# Altium integrated library Atmel Microcontroller 32-Bit ARM.IntLib: 116 symbols (part 3 of 10)
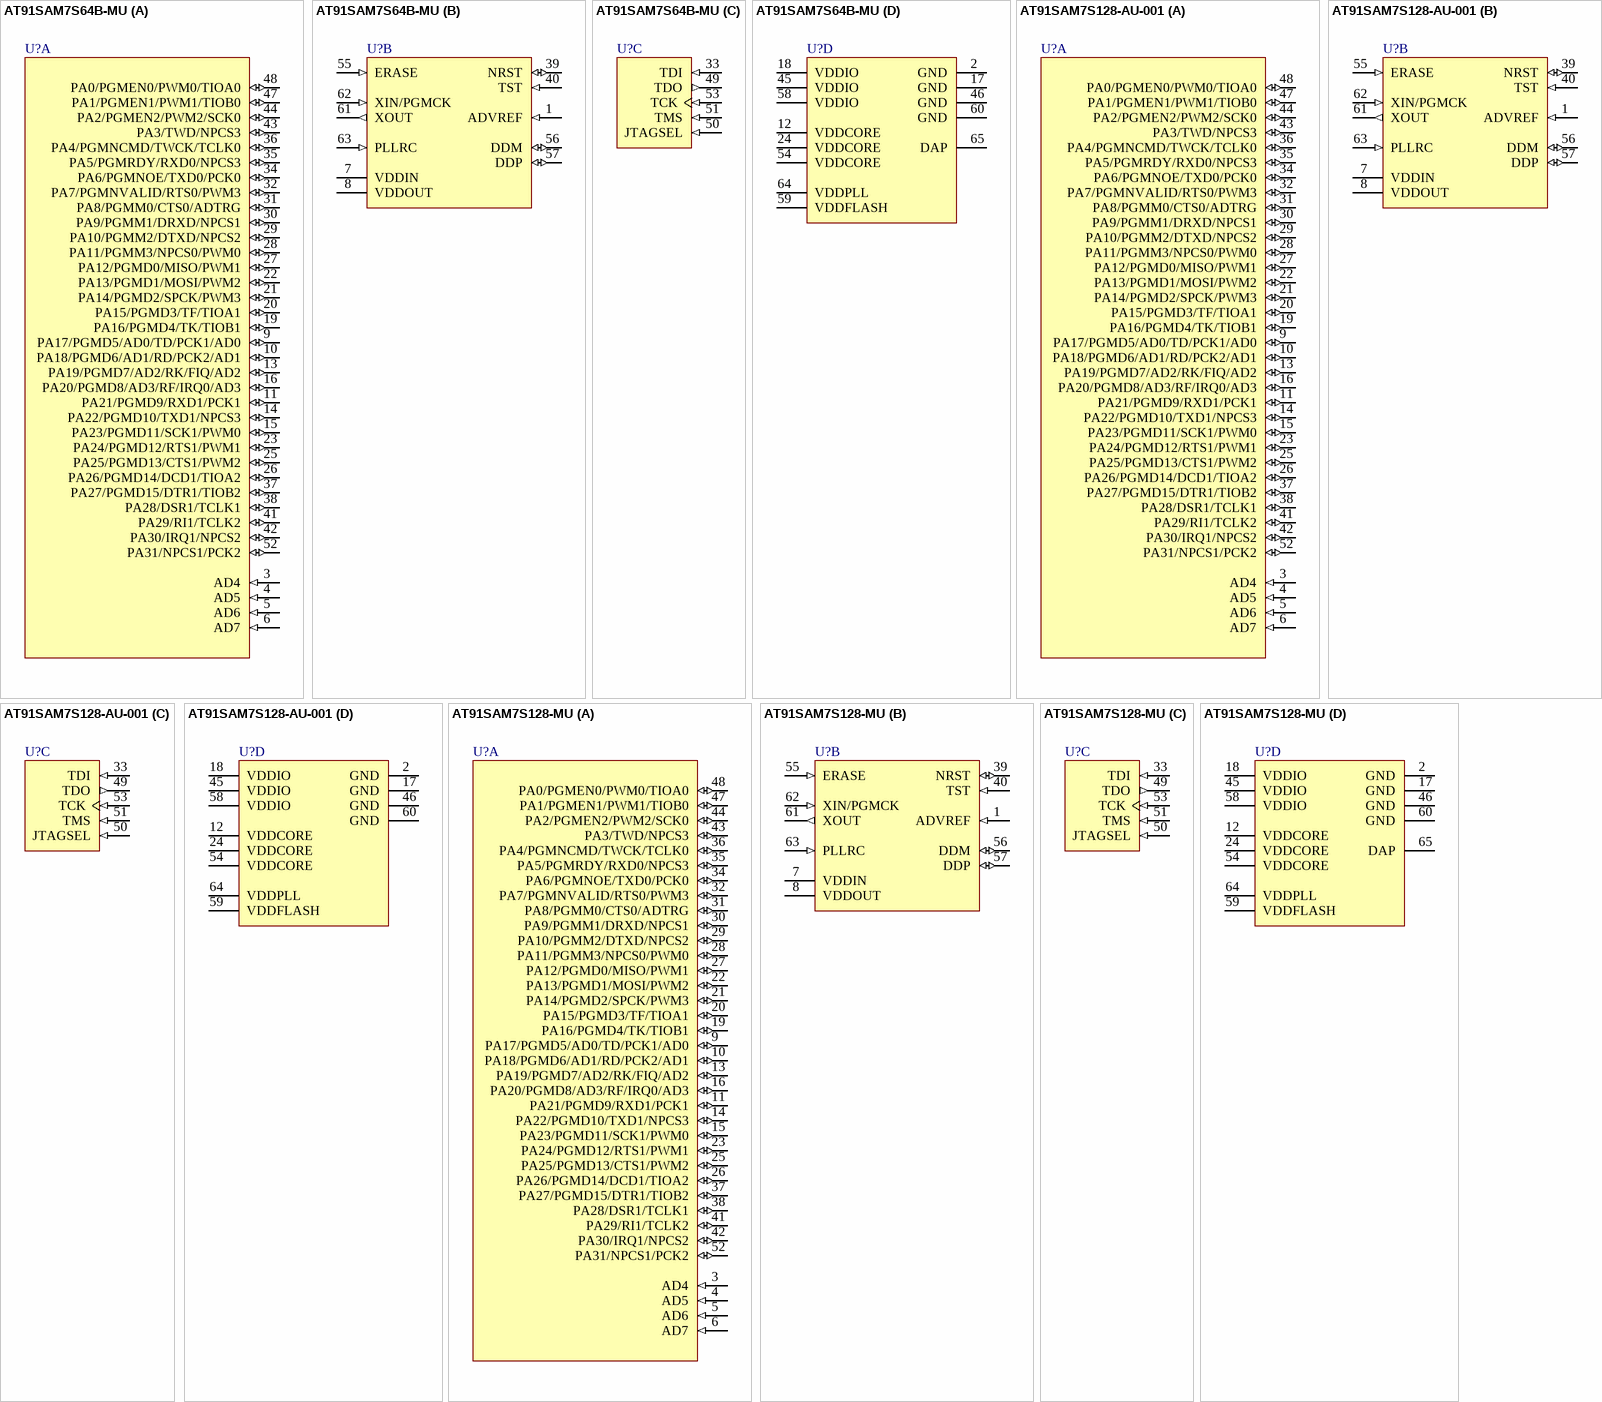
[diagram p54: symbols AT91SAM7S64B-MU to AT91SAM7S128-MU]

## AT91SAM7S64B-MU
designator U?
AT91 ARM Thumb-based 32-bit Microcontroller, 64KB Flash, 16KB SRAM, 11-ch. PDC, 64-Pin QFN, Industrial Grade (-40°C to 85°C), Pb-Free; Published: 20-Sep-2010; DatasheetVersion: revJ, Dec-2009; PackageVersion: Apr-2006; PackageReference: QFN64; Publisher: Altium Limited; PackageDescription: 64-Pin Quad Flat No-Lead 0.5 mm Pitch; Supplier 1: Digi-Key; Supplier Part Number 1: AT91SAM7S64B-MU-ND; Supplier 2: Mouser; Supplier Part Number 2: 556-AT91SAM7S64B-MU; Code_JEDEC: MO-220; ComponentLink1Description: Manufacturer Link; ComponentLink1URL: http://www.atmel.com/products/AT91/default.asp?; ComponentLink2Description: AT91SAM7S Series Datasheet; ComponentLink2URL: http://www.atmel.com/dyn/resources/prod_documents/doc6175.pdf; ComponentLink3Description: AT91SAM7S Series Summary; ComponentLink3URL: http://www.atmel.com/dyn/resources/prod_documents/6175s.pdf; ComponentLink4Description: ARM7TDMI Reference Manual; ComponentLink4URL: http://www.atmel.com/dyn/resources/prod_documents/DDI0029G_7TDMI_R3_trm.pdf; ComponentLink5Description: Atmel.com Home; ComponentLink5URL: http://www.atmel.com
footprint QFN64_N (QFN, 64-Leads, Body 9x9mm, Pitch 0.5mm, IPC Medium Density)
footprint QFN64_L (QFN, 64-Leads, Body 9x9mm, Pitch 0.5mm, IPC High Density)
footprint QFN64_M (QFN, 64-Leads, Body 9x9mm, Pitch 0.5mm, IPC Low Density)
part A pins: 3 AD4 (in), 4 AD5 (in), 5 AD6 (in), 6 AD7 (in), 9 PA17/PGMD5/AD0/TD/PCK1/AD0 (io), 10 PA18/PGMD6/AD1/RD/PCK2/AD1 (io), 11 PA21/PGMD9/RXD1/PCK1 (io), 13 PA19/PGMD7/AD2/RK/FIQ/AD2 (io), 14 PA22/PGMD10/TXD1/NPCS3 (io), 15 PA23/PGMD11/SCK1/PWM0 (io), 16 PA20/PGMD8/AD3/RF/IRQ0/AD3 (io), 19 PA16/PGMD4/TK/TIOB1 (io), 20 PA15/PGMD3/TF/TIOA1 (io), 21 PA14/PGMD2/SPCK/PWM3 (io), 22 PA13/PGMD1/MOSI/PWM2 (io), 23 PA24/PGMD12/RTS1/PWM1 (io), 25 PA25/PGMD13/CTS1/PWM2 (io), 26 PA26/PGMD14/DCD1/TIOA2 (io), 27 PA12/PGMD0/MISO/PWM1 (io), 28 PA11/PGMM3/NPCS0/PWM0 (io), 29 PA10/PGMM2/DTXD/NPCS2 (io), 30 PA9/PGMM1/DRXD/NPCS1 (io), 31 PA8/PGMM0/CTS0/ADTRG (io), 32 PA7/PGMNVALID/RTS0/PWM3 (io), 34 PA6/PGMNOE/TXD0/PCK0 (io), 35 PA5/PGMRDY/RXD0/NPCS3 (io), 36 PA4/PGMNCMD/TWCK/TCLK0 (io), 37 PA27/PGMD15/DTR1/TIOB2 (io), 38 PA28/DSR1/TCLK1 (io), 41 PA29/RI1/TCLK2 (io), 42 PA30/IRQ1/NPCS2 (io), 43 PA3/TWD/NPCS3 (io), 44 PA2/PGMEN2/PWM2/SCK0 (io), 47 PA1/PGMEN1/PWM1/TIOB0 (io), 48 PA0/PGMEN0/PWM0/TIOA0 (io), 52 PA31/NPCS1/PCK2 (io)
part B pins: 1 ADVREF (in), 7 VDDIN (power), 8 VDDOUT (power), 39 NRST (io), 40 TST (in), 55 ERASE (in), 56 DDM (io), 57 DDP (io), 61 XOUT (out), 62 XIN/PGMCK (in), 63 PLLRC (in)
part C pins: 33 TDI (in), 49 TDO (out), 50 JTAGSEL (in), 51 TMS (in), 53 TCK (in)
part D pins: 2 GND (power), 12 VDDCORE (power), 17 GND (power), 18 VDDIO (power), 24 VDDCORE (power), 45 VDDIO (power), 46 GND (power), 54 VDDCORE (power), 58 VDDIO (power), 59 VDDFLASH (power), 60 GND (power), 64 VDDPLL (power), 65 DAP (power)

## AT91SAM7S128-AU-001
designator U?
AT91 ARM Thumb-based 32-bit Microcontroller, 128KB Flash, 32KB SRAM, 64-Pin LQFP, 11-ch. PDC, Industrial Grade (-40°C to 85°C), Pb-Free; Published: 16-Oct-2006; DatasheetVersion: revJ, Dec-2009; PackageVersion: Apr-2006; PackageReference: LQFP64; Publisher: Altium Limited; PackageDescription: 64-Pin Thin Quad Flat Pack 0.5 mm Pitch; Supplier 1: Digi-Key; Supplier Part Number 1: AT91SAM7S128AU001-ND; Supplier 2: Farnell; Supplier Part Number 2: 1095459; Supplier 3: Farnell; Supplier Part Number 3: 1528286; Supplier 4: Mouser; Supplier Part Number 4: 556-A91SAM7S128AU001; Code_JEDEC: MS-026-BCD; ComponentLink1Description: Manufacturer Link; ComponentLink1URL: http://www.atmel.com/products/AT91/default.asp?; ComponentLink2Description: AT91SAM7S Series Datasheet; ComponentLink2URL: http://www.atmel.com/dyn/resources/prod_documents/doc6175.pdf; ComponentLink3Description: AT91SAM7S Series Summary; ComponentLink3URL: http://www.atmel.com/dyn/resources/prod_documents/6175s.pdf; ComponentLink4Description: ARM7TDMI Reference Manual; ComponentLink4URL: http://www.atmel.com/dyn/resources/prod_documents/DDI0029G_7TDMI_R3_trm.pdf; ComponentLink5Description: Atmel.com Home; ComponentLink5URL: http://www.atmel.com
footprint LQFP64_N (Thin QFP, 64-Leads, Body 10x10mm, Pitch 0.5mm, IPC Medium Density)
footprint LQFP64_L (Thin QFP, 64-Leads, Body 10x10mm, Pitch 0.5mm, IPC High Density)
footprint LQFP64_M (Thin QFP, 64-Leads, Body 10x10mm, Pitch 0.5mm, IPC Low Density)
part A pins: 3 AD4 (in), 4 AD5 (in), 5 AD6 (in), 6 AD7 (in), 9 PA17/PGMD5/AD0/TD/PCK1/AD0 (io), 10 PA18/PGMD6/AD1/RD/PCK2/AD1 (io), 11 PA21/PGMD9/RXD1/PCK1 (io), 13 PA19/PGMD7/AD2/RK/FIQ/AD2 (io), 14 PA22/PGMD10/TXD1/NPCS3 (io), 15 PA23/PGMD11/SCK1/PWM0 (io), 16 PA20/PGMD8/AD3/RF/IRQ0/AD3 (io), 19 PA16/PGMD4/TK/TIOB1 (io), 20 PA15/PGMD3/TF/TIOA1 (io), 21 PA14/PGMD2/SPCK/PWM3 (io), 22 PA13/PGMD1/MOSI/PWM2 (io), 23 PA24/PGMD12/RTS1/PWM1 (io), 25 PA25/PGMD13/CTS1/PWM2 (io), 26 PA26/PGMD14/DCD1/TIOA2 (io), 27 PA12/PGMD0/MISO/PWM1 (io), 28 PA11/PGMM3/NPCS0/PWM0 (io), 29 PA10/PGMM2/DTXD/NPCS2 (io), 30 PA9/PGMM1/DRXD/NPCS1 (io), 31 PA8/PGMM0/CTS0/ADTRG (io), 32 PA7/PGMNVALID/RTS0/PWM3 (io), 34 PA6/PGMNOE/TXD0/PCK0 (io), 35 PA5/PGMRDY/RXD0/NPCS3 (io), 36 PA4/PGMNCMD/TWCK/TCLK0 (io), 37 PA27/PGMD15/DTR1/TIOB2 (io), 38 PA28/DSR1/TCLK1 (io), 41 PA29/RI1/TCLK2 (io), 42 PA30/IRQ1/NPCS2 (io), 43 PA3/TWD/NPCS3 (io), 44 PA2/PGMEN2/PWM2/SCK0 (io), 47 PA1/PGMEN1/PWM1/TIOB0 (io), 48 PA0/PGMEN0/PWM0/TIOA0 (io), 52 PA31/NPCS1/PCK2 (io)
part B pins: 1 ADVREF (in), 7 VDDIN (power), 8 VDDOUT (power), 39 NRST (io), 40 TST (in), 55 ERASE (in), 56 DDM (io), 57 DDP (io), 61 XOUT (out), 62 XIN/PGMCK (in), 63 PLLRC (in)
part C pins: 33 TDI (in), 49 TDO (out), 50 JTAGSEL (in), 51 TMS (in), 53 TCK (in)
part D pins: 2 GND (power), 12 VDDCORE (power), 17 GND (power), 18 VDDIO (power), 24 VDDCORE (power), 45 VDDIO (power), 46 GND (power), 54 VDDCORE (power), 58 VDDIO (power), 59 VDDFLASH (power), 60 GND (power), 64 VDDPLL (power)

## AT91SAM7S128-MU
designator U?
AT91 ARM Thumb-based 32-bit Microcontroller, 128KB Flash, 32KB SRAM, 64-Pin QFN, 11-ch. PDC, Industrial Grade (-40°C to 85°C), Pb-Free; Published: 16-Oct-2006; DatasheetVersion: revJ, Dec-2009; PackageVersion: Apr-2006; PackageReference: QFN64; Publisher: Altium Limited; PackageDescription: 64-Pin Quad Flat No-Lead 0.5 mm Pitch; Supplier 1: Digi-Key; Supplier Part Number 1: AT91SAM7S128-MU-ND; Supplier 2: Mouser; Supplier Part Number 2: 556-A91SAM7S128-MU; Code_JEDEC: MO-220; ComponentLink1Description: Manufacturer Link; ComponentLink1URL: http://www.atmel.com/products/AT91/default.asp?; ComponentLink2Description: AT91SAM7S Series Datasheet; ComponentLink2URL: http://www.atmel.com/dyn/resources/prod_documents/doc6175.pdf; ComponentLink3Description: AT91SAM7S Series Summary; ComponentLink3URL: http://www.atmel.com/dyn/resources/prod_documents/6175s.pdf; ComponentLink4Description: ARM7TDMI Reference Manual; ComponentLink4URL: http://www.atmel.com/dyn/resources/prod_documents/DDI0029G_7TDMI_R3_trm.pdf; ComponentLink5Description: Atmel.com Home; ComponentLink5URL: http://www.atmel.com
footprint QFN64_N (QFN, 64-Leads, Body 9x9mm, Pitch 0.5mm, IPC Medium Density)
footprint QFN64_L (QFN, 64-Leads, Body 9x9mm, Pitch 0.5mm, IPC High Density)
footprint QFN64_M (QFN, 64-Leads, Body 9x9mm, Pitch 0.5mm, IPC Low Density)
part A pins: 3 AD4 (in), 4 AD5 (in), 5 AD6 (in), 6 AD7 (in), 9 PA17/PGMD5/AD0/TD/PCK1/AD0 (io), 10 PA18/PGMD6/AD1/RD/PCK2/AD1 (io), 11 PA21/PGMD9/RXD1/PCK1 (io), 13 PA19/PGMD7/AD2/RK/FIQ/AD2 (io), 14 PA22/PGMD10/TXD1/NPCS3 (io), 15 PA23/PGMD11/SCK1/PWM0 (io), 16 PA20/PGMD8/AD3/RF/IRQ0/AD3 (io), 19 PA16/PGMD4/TK/TIOB1 (io), 20 PA15/PGMD3/TF/TIOA1 (io), 21 PA14/PGMD2/SPCK/PWM3 (io), 22 PA13/PGMD1/MOSI/PWM2 (io), 23 PA24/PGMD12/RTS1/PWM1 (io), 25 PA25/PGMD13/CTS1/PWM2 (io), 26 PA26/PGMD14/DCD1/TIOA2 (io), 27 PA12/PGMD0/MISO/PWM1 (io), 28 PA11/PGMM3/NPCS0/PWM0 (io), 29 PA10/PGMM2/DTXD/NPCS2 (io), 30 PA9/PGMM1/DRXD/NPCS1 (io), 31 PA8/PGMM0/CTS0/ADTRG (io), 32 PA7/PGMNVALID/RTS0/PWM3 (io), 34 PA6/PGMNOE/TXD0/PCK0 (io), 35 PA5/PGMRDY/RXD0/NPCS3 (io), 36 PA4/PGMNCMD/TWCK/TCLK0 (io), 37 PA27/PGMD15/DTR1/TIOB2 (io), 38 PA28/DSR1/TCLK1 (io), 41 PA29/RI1/TCLK2 (io), 42 PA30/IRQ1/NPCS2 (io), 43 PA3/TWD/NPCS3 (io), 44 PA2/PGMEN2/PWM2/SCK0 (io), 47 PA1/PGMEN1/PWM1/TIOB0 (io), 48 PA0/PGMEN0/PWM0/TIOA0 (io), 52 PA31/NPCS1/PCK2 (io)
part B pins: 1 ADVREF (in), 7 VDDIN (power), 8 VDDOUT (power), 39 NRST (io), 40 TST (in), 55 ERASE (in), 56 DDM (io), 57 DDP (io), 61 XOUT (out), 62 XIN/PGMCK (in), 63 PLLRC (in)
part C pins: 33 TDI (in), 49 TDO (out), 50 JTAGSEL (in), 51 TMS (in), 53 TCK (in)
part D pins: 2 GND (power), 12 VDDCORE (power), 17 GND (power), 18 VDDIO (power), 24 VDDCORE (power), 45 VDDIO (power), 46 GND (power), 54 VDDCORE (power), 58 VDDIO (power), 59 VDDFLASH (power), 60 GND (power), 64 VDDPLL (power), 65 DAP (power)

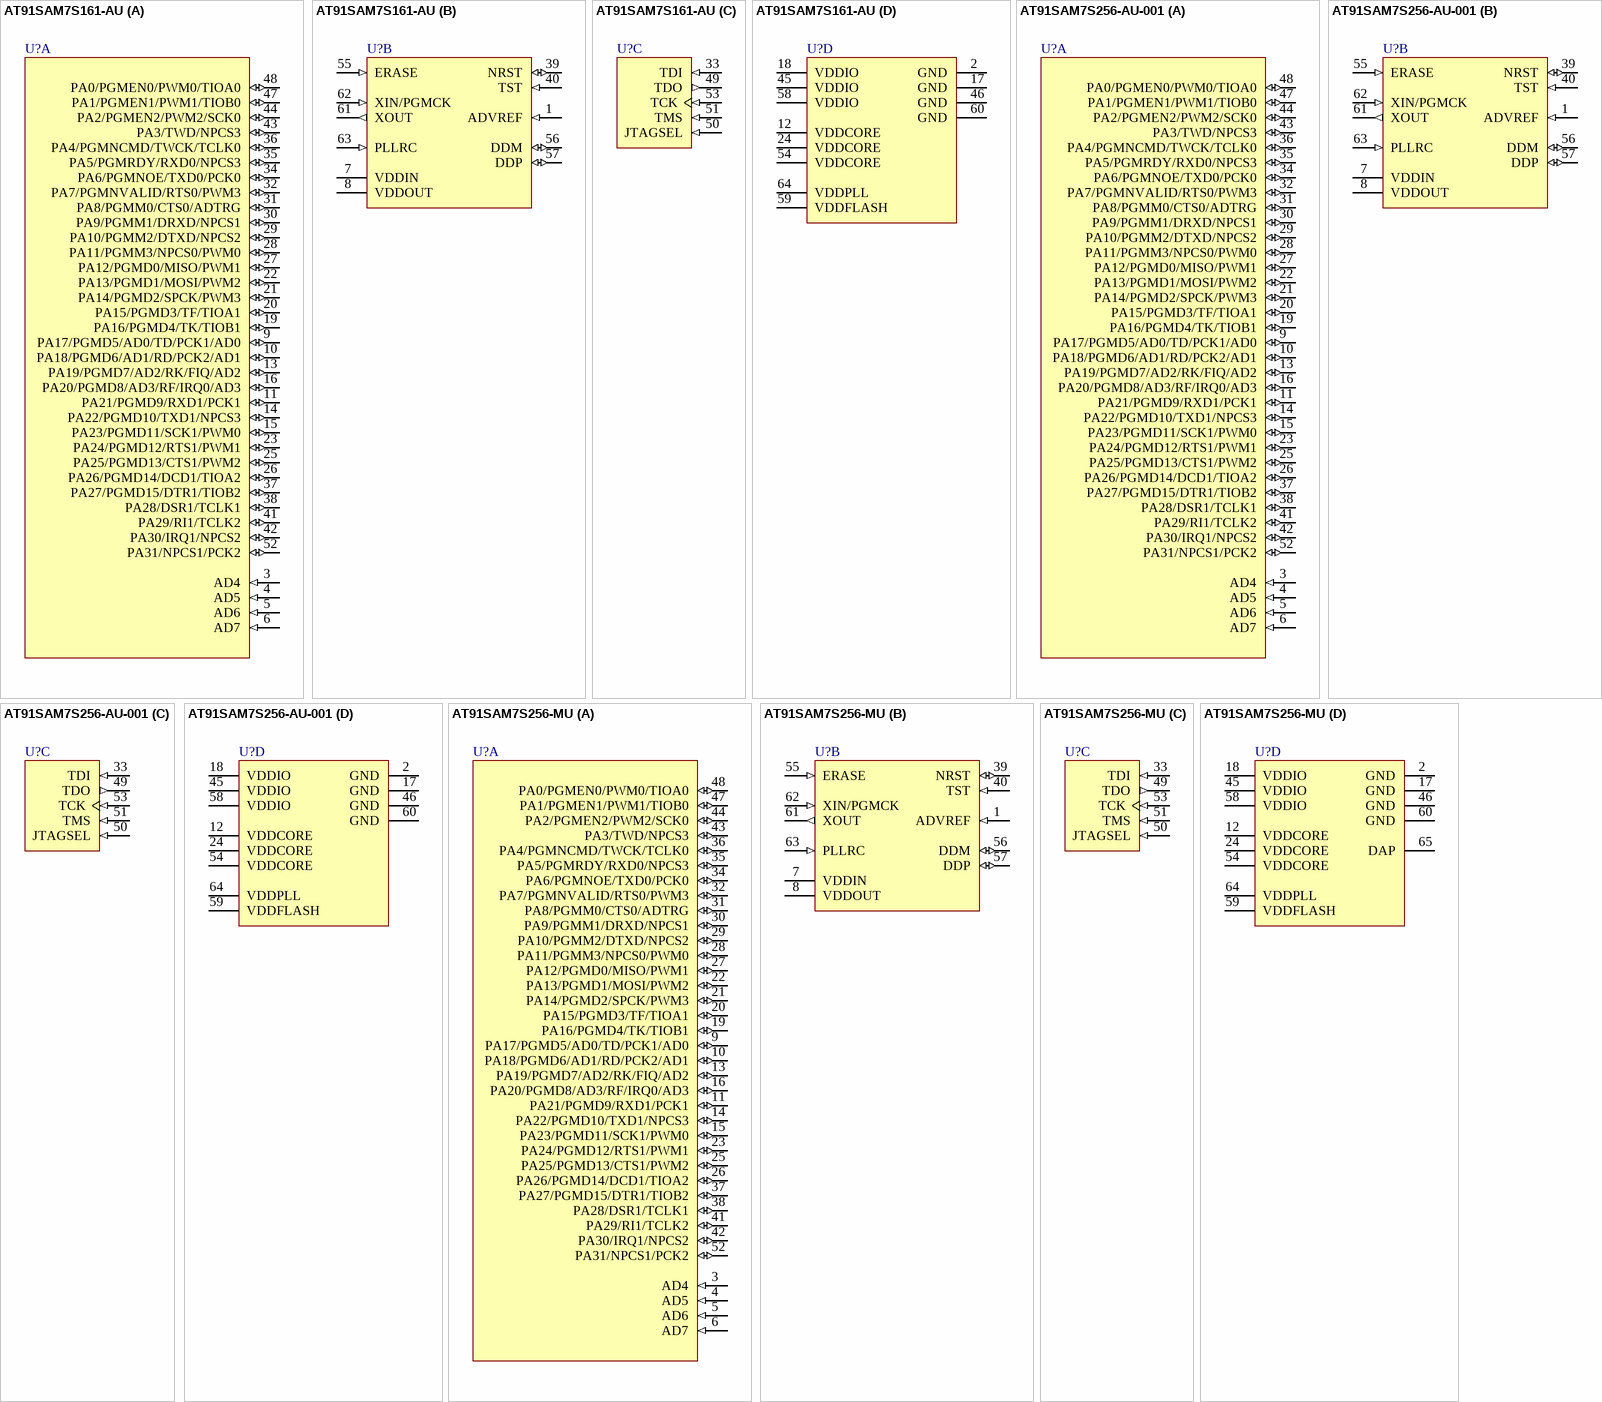
[diagram p12: symbols AT91SAM7S161-AU to AT91SAM7S256-MU]

## AT91SAM7S161-AU
designator U?
AT91 ARM Thumb-based 32-bit Microcontroller, 16KB Flash, 4KB SRAM, 48-Pin LQFP, 11-ch. PDC, Industrial Grade (-40°C to 85°C), Pb-Free; Published: 20-Sep-2010; DatasheetVersion: revJ, Dec-2009; PackageVersion: Apr-2006; PackageReference: LQFP64; Publisher: Altium Limited; PackageDescription: 64-Pin Thin Quad Flat Pack 0.5 mm Pitch; Supplier 1: Digi-Key; Supplier Part Number 1: AT91SAM7S161-AU-ND; Supplier 2: Farnell; Supplier Part Number 2: 1715464; Supplier 3: Mouser; Supplier Part Number 3: 556-AT91SAM7S161-AU; Code_JEDEC: MS-026-BCD; ComponentLink1Description: Manufacturer Link; ComponentLink1URL: http://www.atmel.com/products/AT91/default.asp?; ComponentLink2Description: AT91SAM7S Series Datasheet; ComponentLink2URL: http://www.atmel.com/dyn/resources/prod_documents/doc6175.pdf; ComponentLink3Description: AT91SAM7S Series Summary; ComponentLink3URL: http://www.atmel.com/dyn/resources/prod_documents/6175s.pdf; ComponentLink4Description: ARM7TDMI Reference Manual; ComponentLink4URL: http://www.atmel.com/dyn/resources/prod_documents/DDI0029G_7TDMI_R3_trm.pdf; ComponentLink5Description: Atmel.com Home; ComponentLink5URL: http://www.atmel.com
footprint LQFP64_N (Thin QFP, 64-Leads, Body 10x10mm, Pitch 0.5mm, IPC Medium Density)
footprint LQFP64_L (Thin QFP, 64-Leads, Body 10x10mm, Pitch 0.5mm, IPC High Density)
footprint LQFP64_M (Thin QFP, 64-Leads, Body 10x10mm, Pitch 0.5mm, IPC Low Density)
part A pins: 3 AD4 (in), 4 AD5 (in), 5 AD6 (in), 6 AD7 (in), 9 PA17/PGMD5/AD0/TD/PCK1/AD0 (io), 10 PA18/PGMD6/AD1/RD/PCK2/AD1 (io), 11 PA21/PGMD9/RXD1/PCK1 (io), 13 PA19/PGMD7/AD2/RK/FIQ/AD2 (io), 14 PA22/PGMD10/TXD1/NPCS3 (io), 15 PA23/PGMD11/SCK1/PWM0 (io), 16 PA20/PGMD8/AD3/RF/IRQ0/AD3 (io), 19 PA16/PGMD4/TK/TIOB1 (io), 20 PA15/PGMD3/TF/TIOA1 (io), 21 PA14/PGMD2/SPCK/PWM3 (io), 22 PA13/PGMD1/MOSI/PWM2 (io), 23 PA24/PGMD12/RTS1/PWM1 (io), 25 PA25/PGMD13/CTS1/PWM2 (io), 26 PA26/PGMD14/DCD1/TIOA2 (io), 27 PA12/PGMD0/MISO/PWM1 (io), 28 PA11/PGMM3/NPCS0/PWM0 (io), 29 PA10/PGMM2/DTXD/NPCS2 (io), 30 PA9/PGMM1/DRXD/NPCS1 (io), 31 PA8/PGMM0/CTS0/ADTRG (io), 32 PA7/PGMNVALID/RTS0/PWM3 (io), 34 PA6/PGMNOE/TXD0/PCK0 (io), 35 PA5/PGMRDY/RXD0/NPCS3 (io), 36 PA4/PGMNCMD/TWCK/TCLK0 (io), 37 PA27/PGMD15/DTR1/TIOB2 (io), 38 PA28/DSR1/TCLK1 (io), 41 PA29/RI1/TCLK2 (io), 42 PA30/IRQ1/NPCS2 (io), 43 PA3/TWD/NPCS3 (io), 44 PA2/PGMEN2/PWM2/SCK0 (io), 47 PA1/PGMEN1/PWM1/TIOB0 (io), 48 PA0/PGMEN0/PWM0/TIOA0 (io), 52 PA31/NPCS1/PCK2 (io)
part B pins: 1 ADVREF (in), 7 VDDIN (power), 8 VDDOUT (power), 39 NRST (io), 40 TST (in), 55 ERASE (in), 56 DDM (io), 57 DDP (io), 61 XOUT (out), 62 XIN/PGMCK (in), 63 PLLRC (in)
part C pins: 33 TDI (in), 49 TDO (out), 50 JTAGSEL (in), 51 TMS (in), 53 TCK (in)
part D pins: 2 GND (power), 12 VDDCORE (power), 17 GND (power), 18 VDDIO (power), 24 VDDCORE (power), 45 VDDIO (power), 46 GND (power), 54 VDDCORE (power), 58 VDDIO (power), 59 VDDFLASH (power), 60 GND (power), 64 VDDPLL (power)

## AT91SAM7S256-AU-001
designator U?
AT91 ARM Thumb-based 32-bit Microcontroller, 256KB Flash, 64KB SRAM, 64-Pin LQFP, 11-ch. PDC, Industrial Grade (-40°C to 85°C), Pb-Free; Published: 16-Oct-2006; DatasheetVersion: revJ, Dec-2009; PackageVersion: Apr-2006; PackageReference: LQFP64; Publisher: Altium Limited; PackageDescription: 64-Pin Thin Quad Flat Pack 0.5 mm Pitch; Supplier 1: Digi-Key; Supplier Part Number 1: AT91SAM7S256AU001-ND; Supplier 2: Farnell; Supplier Part Number 2: 1095460; Supplier 3: Farnell; Supplier Part Number 3: 1528287; Supplier 4: Mouser; Supplier Part Number 4: 556-A91SAM7S256AU001; Code_JEDEC: MS-026-BCD; ComponentLink1Description: Manufacturer Link; ComponentLink1URL: http://www.atmel.com/products/AT91/default.asp?; ComponentLink2Description: AT91SAM7S Series Datasheet; ComponentLink2URL: http://www.atmel.com/dyn/resources/prod_documents/doc6175.pdf; ComponentLink3Description: AT91SAM7S Series Summary; ComponentLink3URL: http://www.atmel.com/dyn/resources/prod_documents/6175s.pdf; ComponentLink4Description: ARM7TDMI Reference Manual; ComponentLink4URL: http://www.atmel.com/dyn/resources/prod_documents/DDI0029G_7TDMI_R3_trm.pdf; ComponentLink5Description: Atmel.com Home; ComponentLink5URL: http://www.atmel.com
footprint LQFP64_N (Thin QFP, 64-Leads, Body 10x10mm, Pitch 0.5mm, IPC Medium Density)
footprint LQFP64_L (Thin QFP, 64-Leads, Body 10x10mm, Pitch 0.5mm, IPC High Density)
footprint LQFP64_M (Thin QFP, 64-Leads, Body 10x10mm, Pitch 0.5mm, IPC Low Density)
part A pins: 3 AD4 (in), 4 AD5 (in), 5 AD6 (in), 6 AD7 (in), 9 PA17/PGMD5/AD0/TD/PCK1/AD0 (io), 10 PA18/PGMD6/AD1/RD/PCK2/AD1 (io), 11 PA21/PGMD9/RXD1/PCK1 (io), 13 PA19/PGMD7/AD2/RK/FIQ/AD2 (io), 14 PA22/PGMD10/TXD1/NPCS3 (io), 15 PA23/PGMD11/SCK1/PWM0 (io), 16 PA20/PGMD8/AD3/RF/IRQ0/AD3 (io), 19 PA16/PGMD4/TK/TIOB1 (io), 20 PA15/PGMD3/TF/TIOA1 (io), 21 PA14/PGMD2/SPCK/PWM3 (io), 22 PA13/PGMD1/MOSI/PWM2 (io), 23 PA24/PGMD12/RTS1/PWM1 (io), 25 PA25/PGMD13/CTS1/PWM2 (io), 26 PA26/PGMD14/DCD1/TIOA2 (io), 27 PA12/PGMD0/MISO/PWM1 (io), 28 PA11/PGMM3/NPCS0/PWM0 (io), 29 PA10/PGMM2/DTXD/NPCS2 (io), 30 PA9/PGMM1/DRXD/NPCS1 (io), 31 PA8/PGMM0/CTS0/ADTRG (io), 32 PA7/PGMNVALID/RTS0/PWM3 (io), 34 PA6/PGMNOE/TXD0/PCK0 (io), 35 PA5/PGMRDY/RXD0/NPCS3 (io), 36 PA4/PGMNCMD/TWCK/TCLK0 (io), 37 PA27/PGMD15/DTR1/TIOB2 (io), 38 PA28/DSR1/TCLK1 (io), 41 PA29/RI1/TCLK2 (io), 42 PA30/IRQ1/NPCS2 (io), 43 PA3/TWD/NPCS3 (io), 44 PA2/PGMEN2/PWM2/SCK0 (io), 47 PA1/PGMEN1/PWM1/TIOB0 (io), 48 PA0/PGMEN0/PWM0/TIOA0 (io), 52 PA31/NPCS1/PCK2 (io)
part B pins: 1 ADVREF (in), 7 VDDIN (power), 8 VDDOUT (power), 39 NRST (io), 40 TST (in), 55 ERASE (in), 56 DDM (io), 57 DDP (io), 61 XOUT (out), 62 XIN/PGMCK (in), 63 PLLRC (in)
part C pins: 33 TDI (in), 49 TDO (out), 50 JTAGSEL (in), 51 TMS (in), 53 TCK (in)
part D pins: 2 GND (power), 12 VDDCORE (power), 17 GND (power), 18 VDDIO (power), 24 VDDCORE (power), 45 VDDIO (power), 46 GND (power), 54 VDDCORE (power), 58 VDDIO (power), 59 VDDFLASH (power), 60 GND (power), 64 VDDPLL (power)

## AT91SAM7S256-MU
designator U?
AT91 ARM Thumb-based 32-bit Microcontroller, 256KB Flash, 64KB SRAM, 64-Pin QFN, 11-ch. PDC, Industrial Grade (-40°C to 85°C), Pb-Free; Published: 16-Oct-2006; DatasheetVersion: revJ, Dec-2009; PackageVersion: Apr-2006; PackageReference: QFN64; Publisher: Altium Limited; PackageDescription: 64-Pin Quad Flat No-Lead 0.5 mm Pitch; Supplier 1: Digi-Key; Supplier Part Number 1: AT91SAM7S256-MU-ND; Supplier 2: Mouser; Supplier Part Number 2: 556-A91SAM7S256MU; Code_JEDEC: MO-220; ComponentLink1Description: Manufacturer Link; ComponentLink1URL: http://www.atmel.com/products/AT91/default.asp?; ComponentLink2Description: AT91SAM7S Series Datasheet; ComponentLink2URL: http://www.atmel.com/dyn/resources/prod_documents/doc6175.pdf; ComponentLink3Description: AT91SAM7S Series Summary; ComponentLink3URL: http://www.atmel.com/dyn/resources/prod_documents/6175s.pdf; ComponentLink4Description: ARM7TDMI Reference Manual; ComponentLink4URL: http://www.atmel.com/dyn/resources/prod_documents/DDI0029G_7TDMI_R3_trm.pdf; ComponentLink5Description: Atmel.com Home; ComponentLink5URL: http://www.atmel.com
footprint QFN64_N (QFN, 64-Leads, Body 9x9mm, Pitch 0.5mm, IPC Medium Density)
footprint QFN64_L (QFN, 64-Leads, Body 9x9mm, Pitch 0.5mm, IPC High Density)
footprint QFN64_M (QFN, 64-Leads, Body 9x9mm, Pitch 0.5mm, IPC Low Density)
part A pins: 3 AD4 (in), 4 AD5 (in), 5 AD6 (in), 6 AD7 (in), 9 PA17/PGMD5/AD0/TD/PCK1/AD0 (io), 10 PA18/PGMD6/AD1/RD/PCK2/AD1 (io), 11 PA21/PGMD9/RXD1/PCK1 (io), 13 PA19/PGMD7/AD2/RK/FIQ/AD2 (io), 14 PA22/PGMD10/TXD1/NPCS3 (io), 15 PA23/PGMD11/SCK1/PWM0 (io), 16 PA20/PGMD8/AD3/RF/IRQ0/AD3 (io), 19 PA16/PGMD4/TK/TIOB1 (io), 20 PA15/PGMD3/TF/TIOA1 (io), 21 PA14/PGMD2/SPCK/PWM3 (io), 22 PA13/PGMD1/MOSI/PWM2 (io), 23 PA24/PGMD12/RTS1/PWM1 (io), 25 PA25/PGMD13/CTS1/PWM2 (io), 26 PA26/PGMD14/DCD1/TIOA2 (io), 27 PA12/PGMD0/MISO/PWM1 (io), 28 PA11/PGMM3/NPCS0/PWM0 (io), 29 PA10/PGMM2/DTXD/NPCS2 (io), 30 PA9/PGMM1/DRXD/NPCS1 (io), 31 PA8/PGMM0/CTS0/ADTRG (io), 32 PA7/PGMNVALID/RTS0/PWM3 (io), 34 PA6/PGMNOE/TXD0/PCK0 (io), 35 PA5/PGMRDY/RXD0/NPCS3 (io), 36 PA4/PGMNCMD/TWCK/TCLK0 (io), 37 PA27/PGMD15/DTR1/TIOB2 (io), 38 PA28/DSR1/TCLK1 (io), 41 PA29/RI1/TCLK2 (io), 42 PA30/IRQ1/NPCS2 (io), 43 PA3/TWD/NPCS3 (io), 44 PA2/PGMEN2/PWM2/SCK0 (io), 47 PA1/PGMEN1/PWM1/TIOB0 (io), 48 PA0/PGMEN0/PWM0/TIOA0 (io), 52 PA31/NPCS1/PCK2 (io)
part B pins: 1 ADVREF (in), 7 VDDIN (power), 8 VDDOUT (power), 39 NRST (io), 40 TST (in), 55 ERASE (in), 56 DDM (io), 57 DDP (io), 61 XOUT (out), 62 XIN/PGMCK (in), 63 PLLRC (in)
part C pins: 33 TDI (in), 49 TDO (out), 50 JTAGSEL (in), 51 TMS (in), 53 TCK (in)
part D pins: 2 GND (power), 12 VDDCORE (power), 17 GND (power), 18 VDDIO (power), 24 VDDCORE (power), 45 VDDIO (power), 46 GND (power), 54 VDDCORE (power), 58 VDDIO (power), 59 VDDFLASH (power), 60 GND (power), 64 VDDPLL (power), 65 DAP (power)

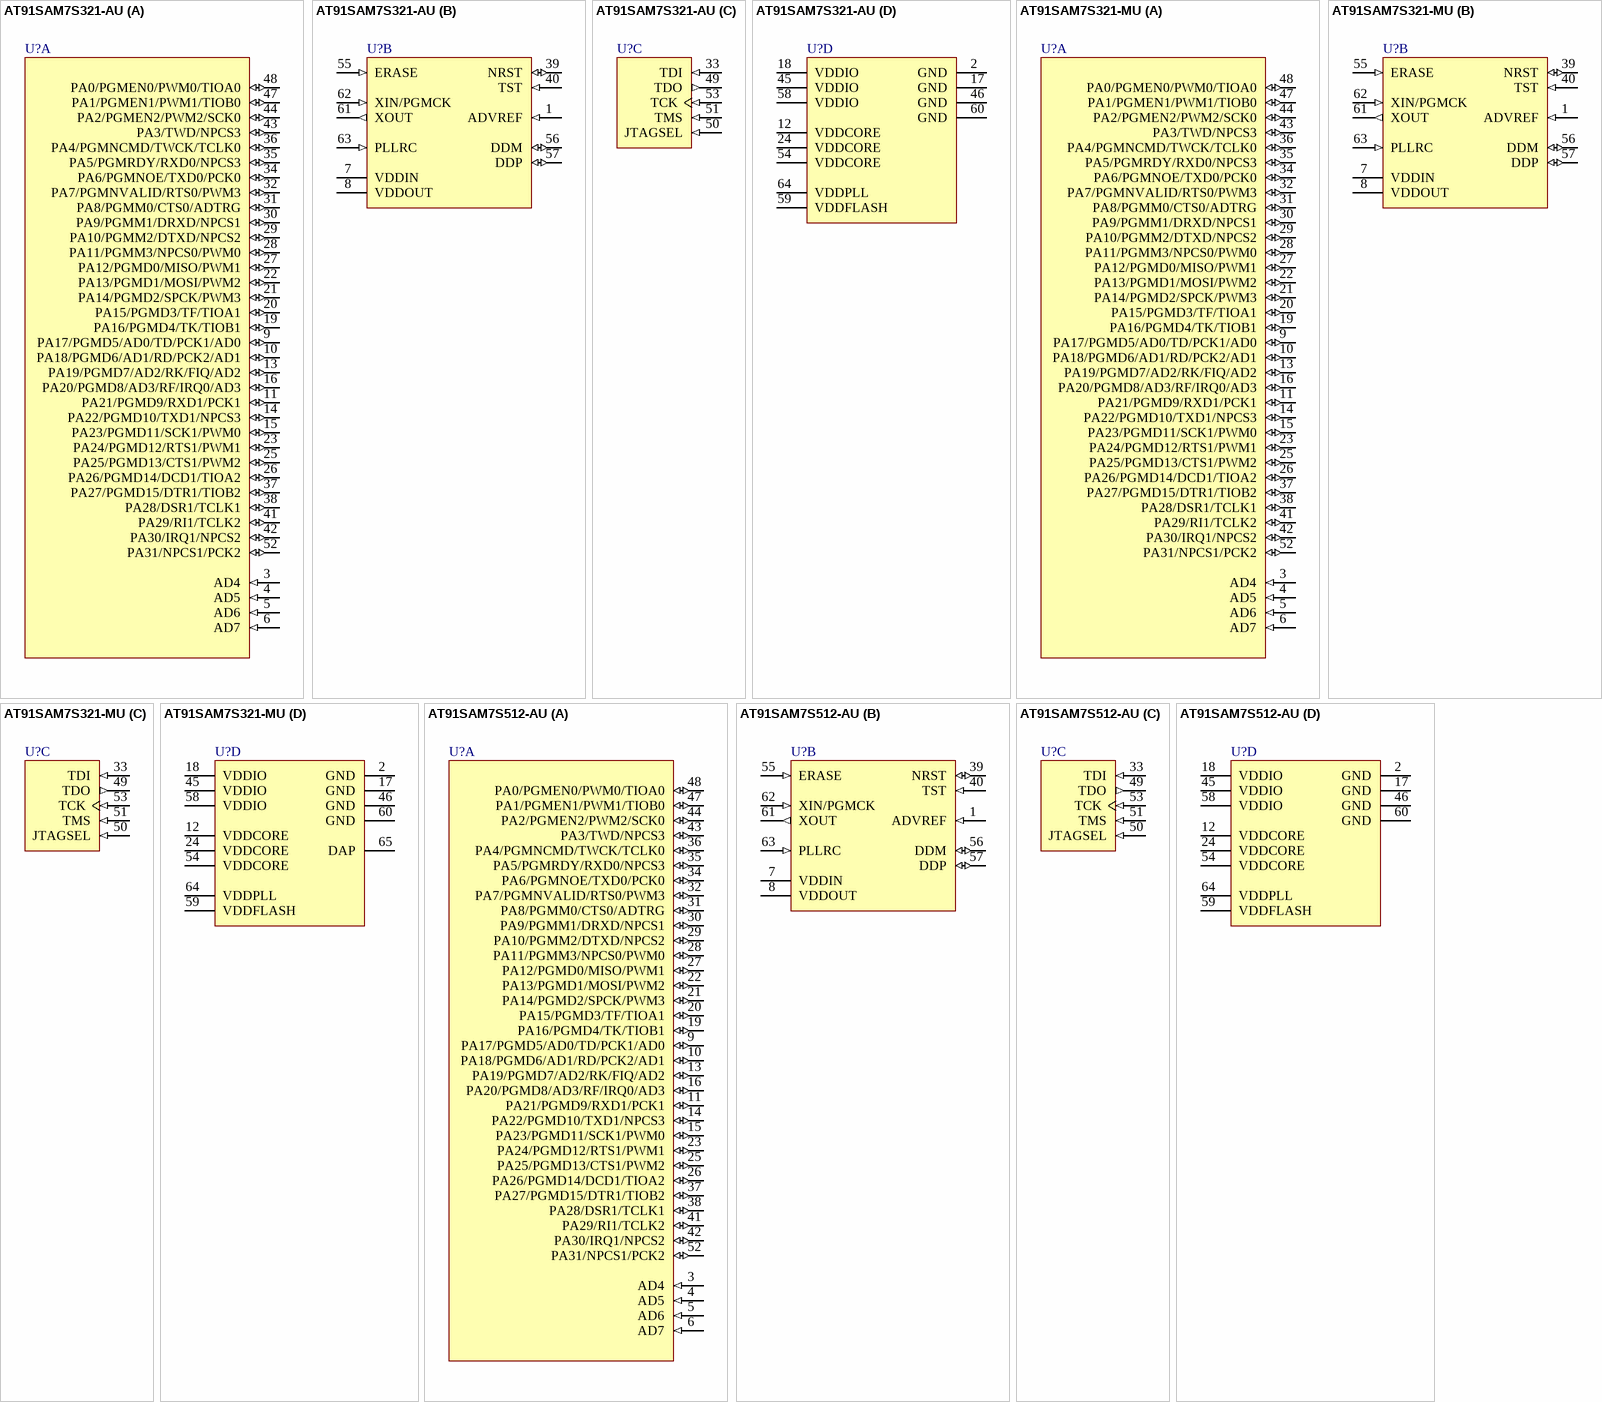
[diagram p13: symbols AT91SAM7S321-AU to AT91SAM7S512-AU]

## AT91SAM7S321-AU
designator U?
AT91 ARM Thumb-based 32-bit Microcontroller, 32KB Flash, 8KB SRAM, 64-Pin LQFP, 11-ch. PDC, Industrial Grade (-40°C to 85°C), Pb-Free; Published: 16-Oct-2006; DatasheetVersion: revJ, Dec-2009; PackageVersion: Apr-2006; PackageReference: LQFP64; Publisher: Altium Limited; PackageDescription: 64-Pin Thin Quad Flat Pack 0.5 mm Pitch; Supplier 1: Digi-Key; Supplier Part Number 1: AT91SAM7S321-AU-ND; Supplier 2: Farnell; Supplier Part Number 2: 1288323; Supplier 3: Mouser; Supplier Part Number 3: 556-A91SAM7S321AU; Code_JEDEC: MS-026-BCD; ComponentLink1Description: Manufacturer Link; ComponentLink1URL: http://www.atmel.com/products/AT91/default.asp?; ComponentLink2Description: AT91SAM7S Series Datasheet; ComponentLink2URL: http://www.atmel.com/dyn/resources/prod_documents/doc6175.pdf; ComponentLink3Description: AT91SAM7S Series Summary; ComponentLink3URL: http://www.atmel.com/dyn/resources/prod_documents/6175s.pdf; ComponentLink4Description: ARM7TDMI Reference Manual; ComponentLink4URL: http://www.atmel.com/dyn/resources/prod_documents/DDI0029G_7TDMI_R3_trm.pdf; ComponentLink5Description: Atmel.com Home; ComponentLink5URL: http://www.atmel.com
footprint LQFP64_N (Thin QFP, 64-Leads, Body 10x10mm, Pitch 0.5mm, IPC Medium Density)
footprint LQFP64_L (Thin QFP, 64-Leads, Body 10x10mm, Pitch 0.5mm, IPC High Density)
footprint LQFP64_M (Thin QFP, 64-Leads, Body 10x10mm, Pitch 0.5mm, IPC Low Density)
part A pins: 3 AD4 (in), 4 AD5 (in), 5 AD6 (in), 6 AD7 (in), 9 PA17/PGMD5/AD0/TD/PCK1/AD0 (io), 10 PA18/PGMD6/AD1/RD/PCK2/AD1 (io), 11 PA21/PGMD9/RXD1/PCK1 (io), 13 PA19/PGMD7/AD2/RK/FIQ/AD2 (io), 14 PA22/PGMD10/TXD1/NPCS3 (io), 15 PA23/PGMD11/SCK1/PWM0 (io), 16 PA20/PGMD8/AD3/RF/IRQ0/AD3 (io), 19 PA16/PGMD4/TK/TIOB1 (io), 20 PA15/PGMD3/TF/TIOA1 (io), 21 PA14/PGMD2/SPCK/PWM3 (io), 22 PA13/PGMD1/MOSI/PWM2 (io), 23 PA24/PGMD12/RTS1/PWM1 (io), 25 PA25/PGMD13/CTS1/PWM2 (io), 26 PA26/PGMD14/DCD1/TIOA2 (io), 27 PA12/PGMD0/MISO/PWM1 (io), 28 PA11/PGMM3/NPCS0/PWM0 (io), 29 PA10/PGMM2/DTXD/NPCS2 (io), 30 PA9/PGMM1/DRXD/NPCS1 (io), 31 PA8/PGMM0/CTS0/ADTRG (io), 32 PA7/PGMNVALID/RTS0/PWM3 (io), 34 PA6/PGMNOE/TXD0/PCK0 (io), 35 PA5/PGMRDY/RXD0/NPCS3 (io), 36 PA4/PGMNCMD/TWCK/TCLK0 (io), 37 PA27/PGMD15/DTR1/TIOB2 (io), 38 PA28/DSR1/TCLK1 (io), 41 PA29/RI1/TCLK2 (io), 42 PA30/IRQ1/NPCS2 (io), 43 PA3/TWD/NPCS3 (io), 44 PA2/PGMEN2/PWM2/SCK0 (io), 47 PA1/PGMEN1/PWM1/TIOB0 (io), 48 PA0/PGMEN0/PWM0/TIOA0 (io), 52 PA31/NPCS1/PCK2 (io)
part B pins: 1 ADVREF (in), 7 VDDIN (power), 8 VDDOUT (power), 39 NRST (io), 40 TST (in), 55 ERASE (in), 56 DDM (io), 57 DDP (io), 61 XOUT (out), 62 XIN/PGMCK (in), 63 PLLRC (in)
part C pins: 33 TDI (in), 49 TDO (out), 50 JTAGSEL (in), 51 TMS (in), 53 TCK (in)
part D pins: 2 GND (power), 12 VDDCORE (power), 17 GND (power), 18 VDDIO (power), 24 VDDCORE (power), 45 VDDIO (power), 46 GND (power), 54 VDDCORE (power), 58 VDDIO (power), 59 VDDFLASH (power), 60 GND (power), 64 VDDPLL (power)

## AT91SAM7S321-MU
designator U?
AT91 ARM Thumb-based 32-bit Microcontroller, 32KB Flash, 8KB SRAM, 64-Pin QFN, 11-ch. PDC, Industrial Grade (-40°C to 85°C), Pb-Free; Published: 16-Oct-2006; DatasheetVersion: revJ, Dec-2009; PackageVersion: Apr-2006; PackageReference: QFN64; Publisher: Altium Limited; PackageDescription: 64-Pin Quad Flat No-Lead 0.5 mm Pitch; Supplier 1: Digi-Key; Supplier Part Number 1: AT91SAM7S321-MU-ND; Supplier 2: Mouser; Supplier Part Number 2: 556-A91SAM7S321-MU; Code_JEDEC: MO-220; ComponentLink1Description: Manufacturer Link; ComponentLink1URL: http://www.atmel.com/products/AT91/default.asp?; ComponentLink2Description: AT91SAM7S Series Datasheet; ComponentLink2URL: http://www.atmel.com/dyn/resources/prod_documents/doc6175.pdf; ComponentLink3Description: AT91SAM7S Series Summary; ComponentLink3URL: http://www.atmel.com/dyn/resources/prod_documents/6175s.pdf; ComponentLink4Description: ARM7TDMI Reference Manual; ComponentLink4URL: http://www.atmel.com/dyn/resources/prod_documents/DDI0029G_7TDMI_R3_trm.pdf; ComponentLink5Description: Atmel.com Home; ComponentLink5URL: http://www.atmel.com
footprint QFN64_N (QFN, 64-Leads, Body 9x9mm, Pitch 0.5mm, IPC Medium Density)
footprint QFN64_L (QFN, 64-Leads, Body 9x9mm, Pitch 0.5mm, IPC High Density)
footprint QFN64_M (QFN, 64-Leads, Body 9x9mm, Pitch 0.5mm, IPC Low Density)
part A pins: 3 AD4 (in), 4 AD5 (in), 5 AD6 (in), 6 AD7 (in), 9 PA17/PGMD5/AD0/TD/PCK1/AD0 (io), 10 PA18/PGMD6/AD1/RD/PCK2/AD1 (io), 11 PA21/PGMD9/RXD1/PCK1 (io), 13 PA19/PGMD7/AD2/RK/FIQ/AD2 (io), 14 PA22/PGMD10/TXD1/NPCS3 (io), 15 PA23/PGMD11/SCK1/PWM0 (io), 16 PA20/PGMD8/AD3/RF/IRQ0/AD3 (io), 19 PA16/PGMD4/TK/TIOB1 (io), 20 PA15/PGMD3/TF/TIOA1 (io), 21 PA14/PGMD2/SPCK/PWM3 (io), 22 PA13/PGMD1/MOSI/PWM2 (io), 23 PA24/PGMD12/RTS1/PWM1 (io), 25 PA25/PGMD13/CTS1/PWM2 (io), 26 PA26/PGMD14/DCD1/TIOA2 (io), 27 PA12/PGMD0/MISO/PWM1 (io), 28 PA11/PGMM3/NPCS0/PWM0 (io), 29 PA10/PGMM2/DTXD/NPCS2 (io), 30 PA9/PGMM1/DRXD/NPCS1 (io), 31 PA8/PGMM0/CTS0/ADTRG (io), 32 PA7/PGMNVALID/RTS0/PWM3 (io), 34 PA6/PGMNOE/TXD0/PCK0 (io), 35 PA5/PGMRDY/RXD0/NPCS3 (io), 36 PA4/PGMNCMD/TWCK/TCLK0 (io), 37 PA27/PGMD15/DTR1/TIOB2 (io), 38 PA28/DSR1/TCLK1 (io), 41 PA29/RI1/TCLK2 (io), 42 PA30/IRQ1/NPCS2 (io), 43 PA3/TWD/NPCS3 (io), 44 PA2/PGMEN2/PWM2/SCK0 (io), 47 PA1/PGMEN1/PWM1/TIOB0 (io), 48 PA0/PGMEN0/PWM0/TIOA0 (io), 52 PA31/NPCS1/PCK2 (io)
part B pins: 1 ADVREF (in), 7 VDDIN (power), 8 VDDOUT (power), 39 NRST (io), 40 TST (in), 55 ERASE (in), 56 DDM (io), 57 DDP (io), 61 XOUT (out), 62 XIN/PGMCK (in), 63 PLLRC (in)
part C pins: 33 TDI (in), 49 TDO (out), 50 JTAGSEL (in), 51 TMS (in), 53 TCK (in)
part D pins: 2 GND (power), 12 VDDCORE (power), 17 GND (power), 18 VDDIO (power), 24 VDDCORE (power), 45 VDDIO (power), 46 GND (power), 54 VDDCORE (power), 58 VDDIO (power), 59 VDDFLASH (power), 60 GND (power), 64 VDDPLL (power), 65 DAP (power)

## AT91SAM7S512-AU
designator U?
AT91 ARM Thumb-based 32-bit Microcontroller, 512KB Flash, 64KB SRAM, 11-ch. PDC, 64-Pin LQFP, Industrial Grade (-40°C to 85°C), Pb-Free; Published: 20-Sep-2010; DatasheetVersion: revJ, Dec-2009; PackageVersion: Apr-2006; PackageReference: LQFP64; Publisher: Altium Limited; PackageDescription: 64-Pin Thin Quad Flat Pack 0.5 mm Pitch; Supplier 1: Digi-Key; Supplier Part Number 1: AT91SAM7S512-AU-ND; Supplier 2: Farnell; Supplier Part Number 2: 1288324; Supplier 3: Mouser; Supplier Part Number 3: 556-A91SAM7S512AU; Code_JEDEC: MS-026-BCD; ComponentLink1Description: Manufacturer Link; ComponentLink1URL: http://www.atmel.com/products/AT91/default.asp?; ComponentLink2Description: AT91SAM7S Series Datasheet; ComponentLink2URL: http://www.atmel.com/dyn/resources/prod_documents/doc6175.pdf; ComponentLink3Description: AT91SAM7S Series Summary; ComponentLink3URL: http://www.atmel.com/dyn/resources/prod_documents/6175s.pdf; ComponentLink4Description: ARM7TDMI Reference Manual; ComponentLink4URL: http://www.atmel.com/dyn/resources/prod_documents/DDI0029G_7TDMI_R3_trm.pdf; ComponentLink5Description: Atmel.com Home; ComponentLink5URL: http://www.atmel.com
footprint LQFP64_N (Thin QFP, 64-Leads, Body 10x10mm, Pitch 0.5mm, IPC Medium Density)
footprint LQFP64_L (Thin QFP, 64-Leads, Body 10x10mm, Pitch 0.5mm, IPC High Density)
footprint LQFP64_M (Thin QFP, 64-Leads, Body 10x10mm, Pitch 0.5mm, IPC Low Density)
part A pins: 3 AD4 (in), 4 AD5 (in), 5 AD6 (in), 6 AD7 (in), 9 PA17/PGMD5/AD0/TD/PCK1/AD0 (io), 10 PA18/PGMD6/AD1/RD/PCK2/AD1 (io), 11 PA21/PGMD9/RXD1/PCK1 (io), 13 PA19/PGMD7/AD2/RK/FIQ/AD2 (io), 14 PA22/PGMD10/TXD1/NPCS3 (io), 15 PA23/PGMD11/SCK1/PWM0 (io), 16 PA20/PGMD8/AD3/RF/IRQ0/AD3 (io), 19 PA16/PGMD4/TK/TIOB1 (io), 20 PA15/PGMD3/TF/TIOA1 (io), 21 PA14/PGMD2/SPCK/PWM3 (io), 22 PA13/PGMD1/MOSI/PWM2 (io), 23 PA24/PGMD12/RTS1/PWM1 (io), 25 PA25/PGMD13/CTS1/PWM2 (io), 26 PA26/PGMD14/DCD1/TIOA2 (io), 27 PA12/PGMD0/MISO/PWM1 (io), 28 PA11/PGMM3/NPCS0/PWM0 (io), 29 PA10/PGMM2/DTXD/NPCS2 (io), 30 PA9/PGMM1/DRXD/NPCS1 (io), 31 PA8/PGMM0/CTS0/ADTRG (io), 32 PA7/PGMNVALID/RTS0/PWM3 (io), 34 PA6/PGMNOE/TXD0/PCK0 (io), 35 PA5/PGMRDY/RXD0/NPCS3 (io), 36 PA4/PGMNCMD/TWCK/TCLK0 (io), 37 PA27/PGMD15/DTR1/TIOB2 (io), 38 PA28/DSR1/TCLK1 (io), 41 PA29/RI1/TCLK2 (io), 42 PA30/IRQ1/NPCS2 (io), 43 PA3/TWD/NPCS3 (io), 44 PA2/PGMEN2/PWM2/SCK0 (io), 47 PA1/PGMEN1/PWM1/TIOB0 (io), 48 PA0/PGMEN0/PWM0/TIOA0 (io), 52 PA31/NPCS1/PCK2 (io)
part B pins: 1 ADVREF (in), 7 VDDIN (power), 8 VDDOUT (power), 39 NRST (io), 40 TST (in), 55 ERASE (in), 56 DDM (io), 57 DDP (io), 61 XOUT (out), 62 XIN/PGMCK (in), 63 PLLRC (in)
part C pins: 33 TDI (in), 49 TDO (out), 50 JTAGSEL (in), 51 TMS (in), 53 TCK (in)
part D pins: 2 GND (power), 12 VDDCORE (power), 17 GND (power), 18 VDDIO (power), 24 VDDCORE (power), 45 VDDIO (power), 46 GND (power), 54 VDDCORE (power), 58 VDDIO (power), 59 VDDFLASH (power), 60 GND (power), 64 VDDPLL (power)

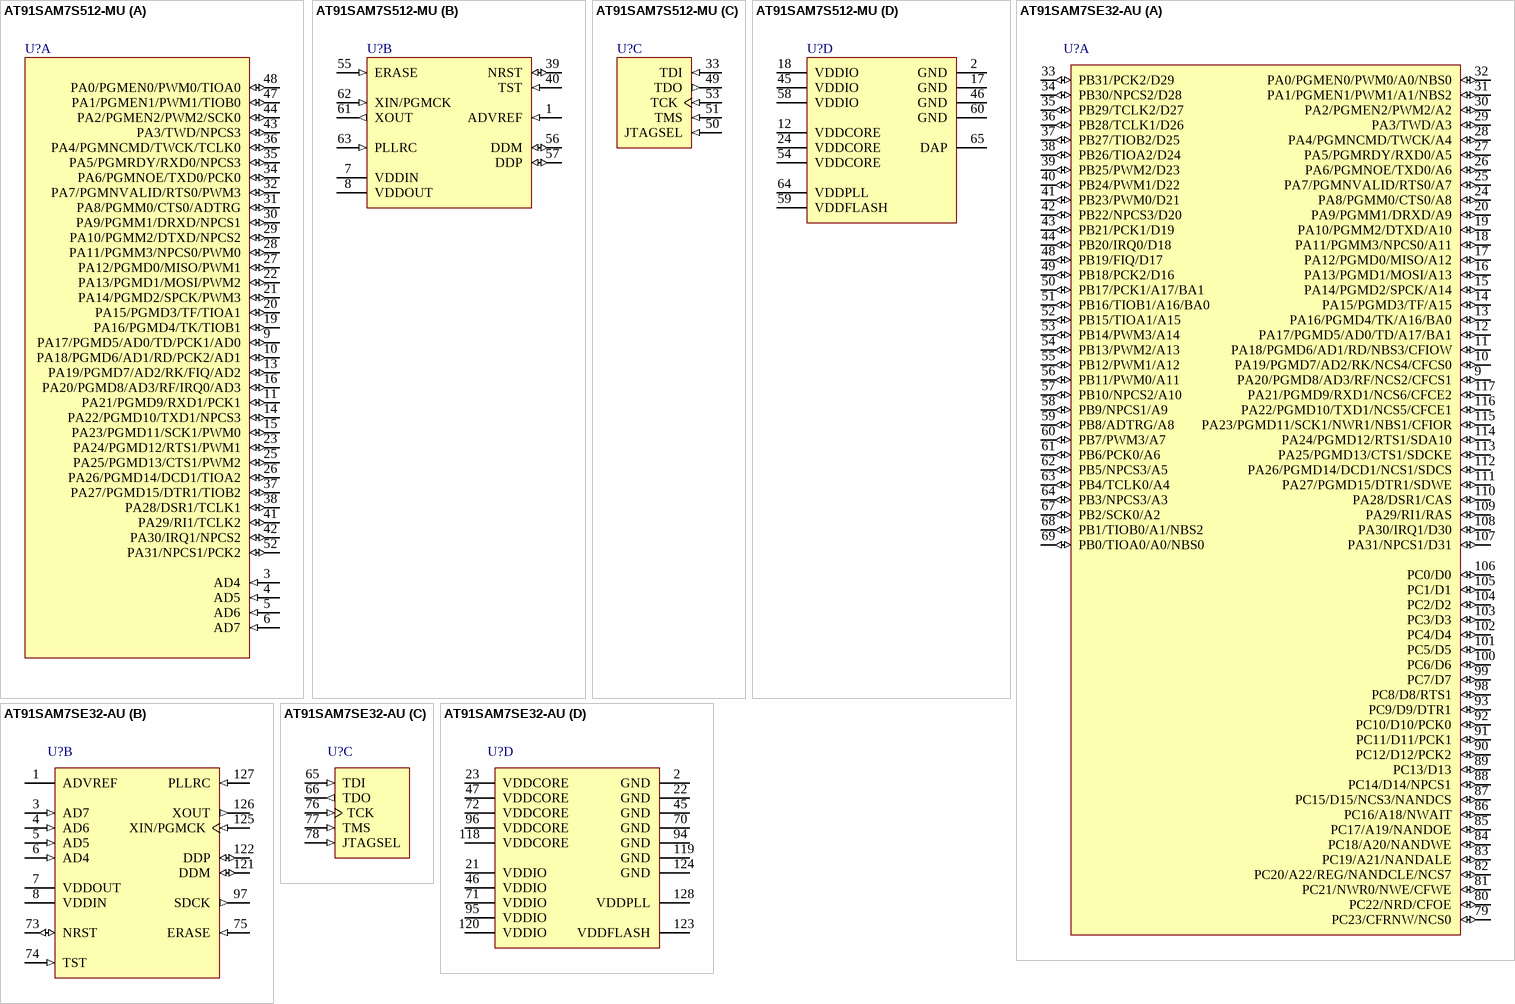
[diagram p14: symbols AT91SAM7S512-MU to AT91SAM7SE32-AU]

## AT91SAM7S512-MU
designator U?
AT91 ARM Thumb-based 32-bit Microcontroller, 512KB Flash, 64KB SRAM, 11-ch. PDC, 64-Pin QFN, Industrial Grade (-40°C to 85°C), Pb-Free; Published: 20-Sep-2010; DatasheetVersion: revJ, Dec-2009; PackageVersion: Apr-2006; PackageReference: QFN64; Publisher: Altium Limited; PackageDescription: 64-Pin Quad Flat No-Lead 0.5 mm Pitch; Supplier 1: Digi-Key; Supplier Part Number 1: AT91SAM7S512-MU-ND; Supplier 2: Mouser; Supplier Part Number 2: 556-A91SAM7S512-MU; Code_JEDEC: MO-220; ComponentLink1Description: Manufacturer Link; ComponentLink1URL: http://www.atmel.com/products/AT91/default.asp?; ComponentLink2Description: AT91SAM7S Series Datasheet; ComponentLink2URL: http://www.atmel.com/dyn/resources/prod_documents/doc6175.pdf; ComponentLink3Description: AT91SAM7S Series Summary; ComponentLink3URL: http://www.atmel.com/dyn/resources/prod_documents/6175s.pdf; ComponentLink4Description: ARM7TDMI Reference Manual; ComponentLink4URL: http://www.atmel.com/dyn/resources/prod_documents/DDI0029G_7TDMI_R3_trm.pdf; ComponentLink5Description: Atmel.com Home; ComponentLink5URL: http://www.atmel.com
footprint QFN64_N (QFN, 64-Leads, Body 9x9mm, Pitch 0.5mm, IPC Medium Density)
footprint QFN64_L (QFN, 64-Leads, Body 9x9mm, Pitch 0.5mm, IPC High Density)
footprint QFN64_M (QFN, 64-Leads, Body 9x9mm, Pitch 0.5mm, IPC Low Density)
part A pins: 3 AD4 (in), 4 AD5 (in), 5 AD6 (in), 6 AD7 (in), 9 PA17/PGMD5/AD0/TD/PCK1/AD0 (io), 10 PA18/PGMD6/AD1/RD/PCK2/AD1 (io), 11 PA21/PGMD9/RXD1/PCK1 (io), 13 PA19/PGMD7/AD2/RK/FIQ/AD2 (io), 14 PA22/PGMD10/TXD1/NPCS3 (io), 15 PA23/PGMD11/SCK1/PWM0 (io), 16 PA20/PGMD8/AD3/RF/IRQ0/AD3 (io), 19 PA16/PGMD4/TK/TIOB1 (io), 20 PA15/PGMD3/TF/TIOA1 (io), 21 PA14/PGMD2/SPCK/PWM3 (io), 22 PA13/PGMD1/MOSI/PWM2 (io), 23 PA24/PGMD12/RTS1/PWM1 (io), 25 PA25/PGMD13/CTS1/PWM2 (io), 26 PA26/PGMD14/DCD1/TIOA2 (io), 27 PA12/PGMD0/MISO/PWM1 (io), 28 PA11/PGMM3/NPCS0/PWM0 (io), 29 PA10/PGMM2/DTXD/NPCS2 (io), 30 PA9/PGMM1/DRXD/NPCS1 (io), 31 PA8/PGMM0/CTS0/ADTRG (io), 32 PA7/PGMNVALID/RTS0/PWM3 (io), 34 PA6/PGMNOE/TXD0/PCK0 (io), 35 PA5/PGMRDY/RXD0/NPCS3 (io), 36 PA4/PGMNCMD/TWCK/TCLK0 (io), 37 PA27/PGMD15/DTR1/TIOB2 (io), 38 PA28/DSR1/TCLK1 (io), 41 PA29/RI1/TCLK2 (io), 42 PA30/IRQ1/NPCS2 (io), 43 PA3/TWD/NPCS3 (io), 44 PA2/PGMEN2/PWM2/SCK0 (io), 47 PA1/PGMEN1/PWM1/TIOB0 (io), 48 PA0/PGMEN0/PWM0/TIOA0 (io), 52 PA31/NPCS1/PCK2 (io)
part B pins: 1 ADVREF (in), 7 VDDIN (power), 8 VDDOUT (power), 39 NRST (io), 40 TST (in), 55 ERASE (in), 56 DDM (io), 57 DDP (io), 61 XOUT (out), 62 XIN/PGMCK (in), 63 PLLRC (in)
part C pins: 33 TDI (in), 49 TDO (out), 50 JTAGSEL (in), 51 TMS (in), 53 TCK (in)
part D pins: 2 GND (power), 12 VDDCORE (power), 17 GND (power), 18 VDDIO (power), 24 VDDCORE (power), 45 VDDIO (power), 46 GND (power), 54 VDDCORE (power), 58 VDDIO (power), 59 VDDFLASH (power), 60 GND (power), 64 VDDPLL (power), 65 DAP (power)

## AT91SAM7SE32-AU
designator U?
AT91 ARM Thumb-based 32-bit Microcontroller, 32KB Flash, 8KB SRAM, EBI, 8-ch. 10-bit ADC, 128-pin LQFP, Industrial Grade (-40°C to 85°C), Pb-Free; Published: 20-Sep-2010; DatasheetVersion: revE, Dec-2009; PackageVersion: 2008; PackageReference: LQFP128; Publisher: Altium Limited; PackageDescription: 128-Pin Thin Quad Flat Pack Rectangular 0.5 mm Pitch; Supplier 1: Digi-Key; Supplier Part Number 1: AT91SAM7SE32-AU-ND; Supplier 2: Farnell; Supplier Part Number 2: 1455082; Supplier 3: Mouser; Supplier Part Number 3: 556-A91SAM7SE32AU; Code_JEDEC: MS-026; ComponentLink1Description: Manufacturer Link; ComponentLink1URL: http://www.atmel.com/products/AT91/default.asp?; ComponentLink2Description: AT91SAM7SE Series Datasheet; ComponentLink2URL: http://www.atmel.com/dyn/resources/prod_documents/doc6222.pdf; ComponentLink3Description: AT91SAM7SE Series Summary; ComponentLink3URL: http://www.atmel.com/dyn/resources/prod_documents/6222s.pdf; ComponentLink4Description: Atmel.com Home; ComponentLink4URL: http://www.atmel.com
footprint LQFP128_N (Thin QFP, 128-Leads, Body 20x14 mm, Pitch 0.5mm, IPC Medium Density)
footprint LQFP128_L (Thin QFP, 128-Leads, Body 20x14 mm, Pitch 0.5mm, IPC High Density)
footprint LQFP128_M (Thin QFP, 128-Leads, Body 20x14 mm, Pitch 0.5mm, IPC Low Density)
part A pins: 9 PA20/PGMD8/AD3/RF/NCS2/CFCS1 (io), 10 PA19/PGMD7/AD2/RK/NCS4/CFCS0 (io), 11 PA18/PGMD6/AD1/RD/NBS3/CFIOW (io), 12 PA17/PGMD5/AD0/TD/A17/BA1 (io), 13 PA16/PGMD4/TK/A16/BA0 (io), 14 PA15/PGMD3/TF/A15 (io), 15 PA14/PGMD2/SPCK/A14 (io), 16 PA13/PGMD1/MOSI/A13 (io), 17 PA12/PGMD0/MISO/A12 (io), 18 PA11/PGMM3/NPCS0/A11 (io), 19 PA10/PGMM2/DTXD/A10 (io), 20 PA9/PGMM1/DRXD/A9 (io), 24 PA8/PGMM0/CTS0/A8 (io), 25 PA7/PGMNVALID/RTS0/A7 (io), 26 PA6/PGMNOE/TXD0/A6 (io), 27 PA5/PGMRDY/RXD0/A5 (io), 28 PA4/PGMNCMD/TWCK/A4 (io), 29 PA3/TWD/A3 (io), 30 PA2/PGMEN2/PWM2/A2 (io), 31 PA1/PGMEN1/PWM1/A1/NBS2 (io), 32 PA0/PGMEN0/PWM0/A0/NBS0 (io), 33 PB31/PCK2/D29 (io), 34 PB30/NPCS2/D28 (io), 35 PB29/TCLK2/D27 (io), 36 PB28/TCLK1/D26 (io), 37 PB27/TIOB2/D25 (io), 38 PB26/TIOA2/D24 (io), 39 PB25/PWM2/D23 (io), 40 PB24/PWM1/D22 (io), 41 PB23/PWM0/D21 (io), 42 PB22/NPCS3/D20 (io), 43 PB21/PCK1/D19 (io), 44 PB20/IRQ0/D18 (io), 48 PB19/FIQ/D17 (io), 49 PB18/PCK2/D16 (io), 50 PB17/PCK1/A17/BA1 (io), 51 PB16/TIOB1/A16/BA0 (io), 52 PB15/TIOA1/A15 (io), 53 PB14/PWM3/A14 (io), 54 PB13/PWM2/A13 (io), 55 PB12/PWM1/A12 (io), 56 PB11/PWM0/A11 (io), 57 PB10/NPCS2/A10 (io), 58 PB9/NPCS1/A9 (io), 59 PB8/ADTRG/A8 (io), 60 PB7/PWM3/A7 (io), 61 PB6/PCK0/A6 (io), 62 PB5/NPCS3/A5 (io), 63 PB4/TCLK0/A4 (io), 64 PB3/NPCS3/A3 (io), 67 PB2/SCK0/A2 (io), 68 PB1/TIOB0/A1/NBS2 (io), 69 PB0/TIOA0/A0/NBS0 (io), 79 PC23/CFRNW/NCS0 (io), 80 PC22/NRD/CFOE (io), 81 PC21/NWR0/NWE/CFWE (io), 82 PC20/A22/REG/NANDCLE/NCS7 (io), 83 PC19/A21/NANDALE (io), 84 PC18/A20/NANDWE (io), 85 PC17/A19/NANDOE (io), 86 PC16/A18/NWAIT (io), 87 PC15/D15/NCS3/NANDCS (io), 88 PC14/D14/NPCS1 (io), 89 PC13/D13 (io), 90 PC12/D12/PCK2 (io), 91 PC11/D11/PCK1 (io), 92 PC10/D10/PCK0 (io), 93 PC9/D9/DTR1 (io), 98 PC8/D8/RTS1 (io), 99 PC7/D7 (io), 100 PC6/D6 (io), 101 PC5/D5 (io), 102 PC4/D4 (io), 103 PC3/D3 (io), 104 PC2/D2 (io), 105 PC1/D1 (io), 106 PC0/D0 (io), 107 PA31/NPCS1/D31 (io), 108 PA30/IRQ1/D30 (io), 109 PA29/RI1/RAS (io), 110 PA28/DSR1/CAS (io), 111 PA27/PGMD15/DTR1/SDWE (io), 112 PA26/PGMD14/DCD1/NCS1/SDCS (io), 113 PA25/PGMD13/CTS1/SDCKE (io), 114 PA24/PGMD12/RTS1/SDA10 (io), 115 PA23/PGMD11/SCK1/NWR1/NBS1/CFIOR (io), 116 PA22/PGMD10/TXD1/NCS5/CFCE1 (io), 117 PA21/PGMD9/RXD1/NCS6/CFCE2 (io)
part B pins: 1 ADVREF (power), 3 AD7 (in), 4 AD6 (in), 5 AD5 (in), 6 AD4 (in), 7 VDDOUT (power), 8 VDDIN (power), 73 NRST (io), 74 TST (in), 75 ERASE (in), 97 SDCK (out), 121 DDM (io), 122 DDP (io), 125 XIN/PGMCK (in), 126 XOUT (out), 127 PLLRC (in)
part C pins: 65 TDI (in), 66 TDO (out), 76 TCK (in), 77 TMS (in), 78 JTAGSEL (in)
part D pins: 2 GND (power), 21 VDDIO (power), 22 GND (power), 23 VDDCORE (power), 45 GND (power), 46 VDDIO (power), 47 VDDCORE (power), 70 GND (power), 71 VDDIO (power), 72 VDDCORE (power), 94 GND (power), 95 VDDIO (power), 96 VDDCORE (power), 118 VDDCORE (power), 119 GND (power), 120 VDDIO (power), 123 VDDFLASH (power), 124 GND (power), 128 VDDPLL (power)

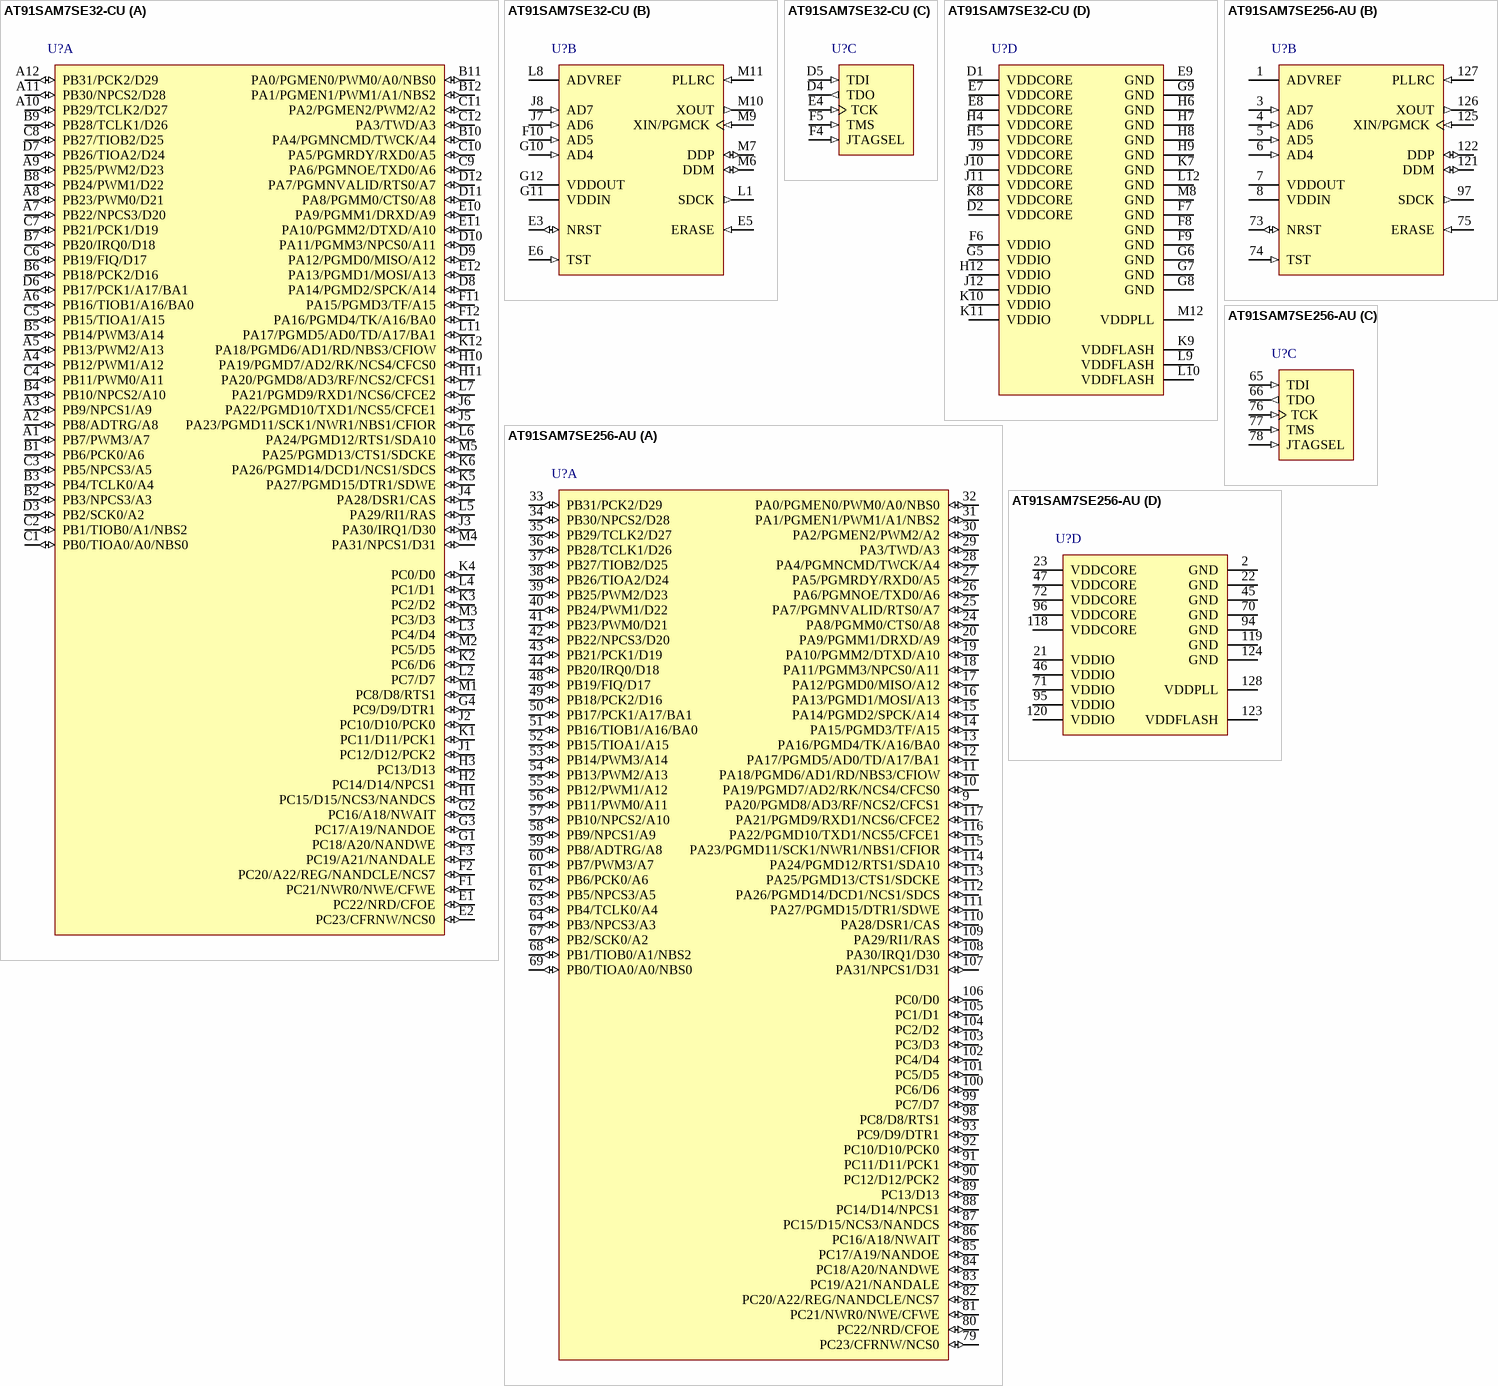
[diagram p15: symbols AT91SAM7SE32-CU to AT91SAM7SE256-AU]

## AT91SAM7SE32-CU
designator U?
AT91 ARM Thumb-based 32-bit Microcontroller, 32KB Flash, 8KB SRAM, EBI, 8-ch. 10-bit ADC, 144-pin LFBGA, Industrial Grade (-40°C to 85°C), Pb-Free; Published: 20-Sep-2010; DatasheetVersion: revE, Dec-2009; PackageVersion: 2008; PackageReference: LFBGA144; Publisher: Altium Limited; PackageDescription: 144-Ball Low Profile Fine Pitch BGA, 10 x 10 x 1.4 mm Body, 0.8 mm Pitch; Supplier 1: Digi-Key; Supplier Part Number 1: AT91SAM7SE32-CU-ND; Supplier 2: Mouser; Supplier Part Number 2: 556-A91SAM7SE32-CU; Code_JEDEC: MS-026; ComponentLink1Description: Manufacturer Link; ComponentLink1URL: http://www.atmel.com/products/AT91/default.asp?; ComponentLink2Description: AT91SAM7SE Series Datasheet; ComponentLink2URL: http://www.atmel.com/dyn/resources/prod_documents/doc6222.pdf; ComponentLink3Description: AT91SAM7SE Series Summary; ComponentLink3URL: http://www.atmel.com/dyn/resources/prod_documents/6222s.pdf; ComponentLink4Description: Atmel.com Home; ComponentLink4URL: http://www.atmel.com
footprint LFBGA144 (BGA, 144-Leads, Body 10x10mm, Pitch 0.8mm)
part A pins: A1 PB7/PWM3/A7 (io), A2 PB8/ADTRG/A8 (io), A3 PB9/NPCS1/A9 (io), A4 PB12/PWM1/A12 (io), A5 PB13/PWM2/A13 (io), A6 PB16/TIOB1/A16/BA0 (io), A7 PB22/NPCS3/D20 (io), A8 PB23/PWM0/D21 (io), A9 PB25/PWM2/D23 (io), A10 PB29/TCLK2/D27 (io), A11 PB30/NPCS2/D28 (io), A12 PB31/PCK2/D29 (io), B1 PB6/PCK0/A6 (io), B2 PB3/NPCS3/A3 (io), B3 PB4/TCLK0/A4 (io), B4 PB10/NPCS2/A10 (io), B5 PB14/PWM3/A14 (io), B6 PB18/PCK2/D16 (io), B7 PB20/IRQ0/D18 (io), B8 PB24/PWM1/D22 (io), B9 PB28/TCLK1/D26 (io), B10 PA4/PGMNCMD/TWCK/A4 (io), B11 PA0/PGMEN0/PWM0/A0/NBS0 (io), B12 PA1/PGMEN1/PWM1/A1/NBS2 (io), C1 PB0/TIOA0/A0/NBS0 (io), C2 PB1/TIOB0/A1/NBS2 (io), C3 PB5/NPCS3/A5 (io), C4 PB11/PWM0/A11 (io), C5 PB15/TIOA1/A15 (io), C6 PB19/FIQ/D17 (io), C7 PB21/PCK1/D19 (io), C8 PB27/TIOB2/D25 (io), C9 PA6/PGMNOE/TXD0/A6 (io), C10 PA5/PGMRDY/RXD0/A5 (io), C11 PA2/PGMEN2/PWM2/A2 (io), C12 PA3/TWD/A3 (io), D3 PB2/SCK0/A2 (io), D6 PB17/PCK1/A17/BA1 (io), D7 PB26/TIOA2/D24 (io), D8 PA14/PGMD2/SPCK/A14 (io), D9 PA12/PGMD0/MISO/A12 (io), D10 PA11/PGMM3/NPCS0/A11 (io), D11 PA8/PGMM0/CTS0/A8 (io), D12 PA7/PGMNVALID/RTS0/A7 (io), E1 PC22/NRD/CFOE (io), E2 PC23/CFRNW/NCS0 (io), E10 PA9/PGMM1/DRXD/A9 (io), E11 PA10/PGMM2/DTXD/A10 (io), E12 PA13/PGMD1/MOSI/A13 (io), F1 PC21/NWR0/NWE/CFWE (io), F2 PC20/A22/REG/NANDCLE/NCS7 (io), F3 PC19/A21/NANDALE (io), F11 PA15/PGMD3/TF/A15 (io), F12 PA16/PGMD4/TK/A16/BA0 (io), G1 PC18/A20/NANDWE (io), G2 PC16/A18/NWAIT (io), G3 PC17/A19/NANDOE (io), G4 PC9/D9/DTR1 (io), H1 PC15/D15/NCS3/NANDCS (io), H2 PC14/D14/NPCS1 (io), H3 PC13/D13 (io), H10 PA19/PGMD7/AD2/RK/NCS4/CFCS0 (io), H11 PA20/PGMD8/AD3/RF/NCS2/CFCS1 (io), J1 PC12/D12/PCK2 (io), J2 PC10/D10/PCK0 (io), J3 PA30/IRQ1/D30 (io), J4 PA28/DSR1/CAS (io), J5 PA23/PGMD11/SCK1/NWR1/NBS1/CFIOR (io), J6 PA22/PGMD10/TXD1/NCS5/CFCE1 (io), K1 PC11/D11/PCK1 (io), K2 PC6/D6 (io), K3 PC2/D2 (io), K4 PC0/D0 (io), K5 PA27/PGMD15/DTR1/SDWE (io), K6 PA26/PGMD14/DCD1/NCS1/SDCS (io), K12 PA18/PGMD6/AD1/RD/NBS3/CFIOW (io), L2 PC7/D7 (io), L3 PC4/D4 (io), L4 PC1/D1 (io), L5 PA29/RI1/RAS (io), L6 PA24/PGMD12/RTS1/SDA10 (io), L7 PA21/PGMD9/RXD1/NCS6/CFCE2 (io), L11 PA17/PGMD5/AD0/TD/A17/BA1 (io), M1 PC8/D8/RTS1 (io), M2 PC5/D5 (io), M3 PC3/D3 (io), M4 PA31/NPCS1/D31 (io), M5 PA25/PGMD13/CTS1/SDCKE (io)
part B pins: E3 NRST (io), E5 ERASE (in), E6 TST (in), F10 AD5 (in), G10 AD4 (in), G11 VDDIN (power), G12 VDDOUT (power), J7 AD6 (in), J8 AD7 (in), L1 SDCK (out), L8 ADVREF (power), M6 DDM (io), M7 DDP (io), M9 XIN/PGMCK (in), M10 XOUT (out), M11 PLLRC (in)
part C pins: D4 TDO (out), D5 TDI (in), E4 TCK (in), F4 JTAGSEL (in), F5 TMS (in)
part D pins: D1 VDDCORE (power), D2 VDDCORE (power), E7 VDDCORE (power), E8 VDDCORE (power), E9 GND (power), F6 VDDIO (power), F7 GND (power), F8 GND (power), F9 GND (power), G5 VDDIO (power), G6 GND (power), G7 GND (power), G8 GND (power), G9 GND (power), H4 VDDCORE (power), H5 VDDCORE (power), H6 GND (power), H7 GND (power), H8 GND (power), H9 GND (power), H12 VDDIO (power), J9 VDDCORE (power), J10 VDDCORE (power), J11 VDDCORE (power), J12 VDDIO (power), K7 GND (power), K8 VDDCORE (power), K9 VDDFLASH (power), K10 VDDIO (power), K11 VDDIO (power), L9 VDDFLASH (power), L10 VDDFLASH (power), L12 GND (power), M8 GND (power), M12 VDDPLL (power)

## AT91SAM7SE256-AU
designator U?
AT91 ARM Thumb-based 32-bit Microcontroller, 256KB Flash, 32KB SRAM, EBI, 8-ch. 10-bit ADC, 128-pin LQFP, Industrial Grade (-40°C to 85°C), Pb-Free; Published: 20-Sep-2010; DatasheetVersion: revE, Dec-2009; PackageVersion: 2008; PackageReference: LQFP128; Publisher: Altium Limited; PackageDescription: 128-Pin Thin Quad Flat Pack Rectangular 0.5 mm Pitch; Supplier 1: Digi-Key; Supplier Part Number 1: AT91SAM7SE256-AU-ND; Supplier 2: Farnell; Supplier Part Number 2: 1455081; Supplier 3: Mouser; Supplier Part Number 3: 556-A91SAM7SE256AU; Code_JEDEC: MS-026; ComponentLink1Description: Manufacturer Link; ComponentLink1URL: http://www.atmel.com/products/AT91/default.asp?; ComponentLink2Description: AT91SAM7SE Series Datasheet; ComponentLink2URL: http://www.atmel.com/dyn/resources/prod_documents/doc6222.pdf; ComponentLink3Description: AT91SAM7SE Series Summary; ComponentLink3URL: http://www.atmel.com/dyn/resources/prod_documents/6222s.pdf; ComponentLink4Description: Atmel.com Home; ComponentLink4URL: http://www.atmel.com
footprint LQFP128_N (Thin QFP, 128-Leads, Body 20x14 mm, Pitch 0.5mm, IPC Medium Density)
footprint LQFP128_L (Thin QFP, 128-Leads, Body 20x14 mm, Pitch 0.5mm, IPC High Density)
footprint LQFP128_M (Thin QFP, 128-Leads, Body 20x14 mm, Pitch 0.5mm, IPC Low Density)
part A pins: 9 PA20/PGMD8/AD3/RF/NCS2/CFCS1 (io), 10 PA19/PGMD7/AD2/RK/NCS4/CFCS0 (io), 11 PA18/PGMD6/AD1/RD/NBS3/CFIOW (io), 12 PA17/PGMD5/AD0/TD/A17/BA1 (io), 13 PA16/PGMD4/TK/A16/BA0 (io), 14 PA15/PGMD3/TF/A15 (io), 15 PA14/PGMD2/SPCK/A14 (io), 16 PA13/PGMD1/MOSI/A13 (io), 17 PA12/PGMD0/MISO/A12 (io), 18 PA11/PGMM3/NPCS0/A11 (io), 19 PA10/PGMM2/DTXD/A10 (io), 20 PA9/PGMM1/DRXD/A9 (io), 24 PA8/PGMM0/CTS0/A8 (io), 25 PA7/PGMNVALID/RTS0/A7 (io), 26 PA6/PGMNOE/TXD0/A6 (io), 27 PA5/PGMRDY/RXD0/A5 (io), 28 PA4/PGMNCMD/TWCK/A4 (io), 29 PA3/TWD/A3 (io), 30 PA2/PGMEN2/PWM2/A2 (io), 31 PA1/PGMEN1/PWM1/A1/NBS2 (io), 32 PA0/PGMEN0/PWM0/A0/NBS0 (io), 33 PB31/PCK2/D29 (io), 34 PB30/NPCS2/D28 (io), 35 PB29/TCLK2/D27 (io), 36 PB28/TCLK1/D26 (io), 37 PB27/TIOB2/D25 (io), 38 PB26/TIOA2/D24 (io), 39 PB25/PWM2/D23 (io), 40 PB24/PWM1/D22 (io), 41 PB23/PWM0/D21 (io), 42 PB22/NPCS3/D20 (io), 43 PB21/PCK1/D19 (io), 44 PB20/IRQ0/D18 (io), 48 PB19/FIQ/D17 (io), 49 PB18/PCK2/D16 (io), 50 PB17/PCK1/A17/BA1 (io), 51 PB16/TIOB1/A16/BA0 (io), 52 PB15/TIOA1/A15 (io), 53 PB14/PWM3/A14 (io), 54 PB13/PWM2/A13 (io), 55 PB12/PWM1/A12 (io), 56 PB11/PWM0/A11 (io), 57 PB10/NPCS2/A10 (io), 58 PB9/NPCS1/A9 (io), 59 PB8/ADTRG/A8 (io), 60 PB7/PWM3/A7 (io), 61 PB6/PCK0/A6 (io), 62 PB5/NPCS3/A5 (io), 63 PB4/TCLK0/A4 (io), 64 PB3/NPCS3/A3 (io), 67 PB2/SCK0/A2 (io), 68 PB1/TIOB0/A1/NBS2 (io), 69 PB0/TIOA0/A0/NBS0 (io), 79 PC23/CFRNW/NCS0 (io), 80 PC22/NRD/CFOE (io), 81 PC21/NWR0/NWE/CFWE (io), 82 PC20/A22/REG/NANDCLE/NCS7 (io), 83 PC19/A21/NANDALE (io), 84 PC18/A20/NANDWE (io), 85 PC17/A19/NANDOE (io), 86 PC16/A18/NWAIT (io), 87 PC15/D15/NCS3/NANDCS (io), 88 PC14/D14/NPCS1 (io), 89 PC13/D13 (io), 90 PC12/D12/PCK2 (io), 91 PC11/D11/PCK1 (io), 92 PC10/D10/PCK0 (io), 93 PC9/D9/DTR1 (io), 98 PC8/D8/RTS1 (io), 99 PC7/D7 (io), 100 PC6/D6 (io), 101 PC5/D5 (io), 102 PC4/D4 (io), 103 PC3/D3 (io), 104 PC2/D2 (io), 105 PC1/D1 (io), 106 PC0/D0 (io), 107 PA31/NPCS1/D31 (io), 108 PA30/IRQ1/D30 (io), 109 PA29/RI1/RAS (io), 110 PA28/DSR1/CAS (io), 111 PA27/PGMD15/DTR1/SDWE (io), 112 PA26/PGMD14/DCD1/NCS1/SDCS (io), 113 PA25/PGMD13/CTS1/SDCKE (io), 114 PA24/PGMD12/RTS1/SDA10 (io), 115 PA23/PGMD11/SCK1/NWR1/NBS1/CFIOR (io), 116 PA22/PGMD10/TXD1/NCS5/CFCE1 (io), 117 PA21/PGMD9/RXD1/NCS6/CFCE2 (io)
part B pins: 1 ADVREF (power), 3 AD7 (in), 4 AD6 (in), 5 AD5 (in), 6 AD4 (in), 7 VDDOUT (power), 8 VDDIN (power), 73 NRST (io), 74 TST (in), 75 ERASE (in), 97 SDCK (out), 121 DDM (io), 122 DDP (io), 125 XIN/PGMCK (in), 126 XOUT (out), 127 PLLRC (in)
part C pins: 65 TDI (in), 66 TDO (out), 76 TCK (in), 77 TMS (in), 78 JTAGSEL (in)
part D pins: 2 GND (power), 21 VDDIO (power), 22 GND (power), 23 VDDCORE (power), 45 GND (power), 46 VDDIO (power), 47 VDDCORE (power), 70 GND (power), 71 VDDIO (power), 72 VDDCORE (power), 94 GND (power), 95 VDDIO (power), 96 VDDCORE (power), 118 VDDCORE (power), 119 GND (power), 120 VDDIO (power), 123 VDDFLASH (power), 124 GND (power), 128 VDDPLL (power)

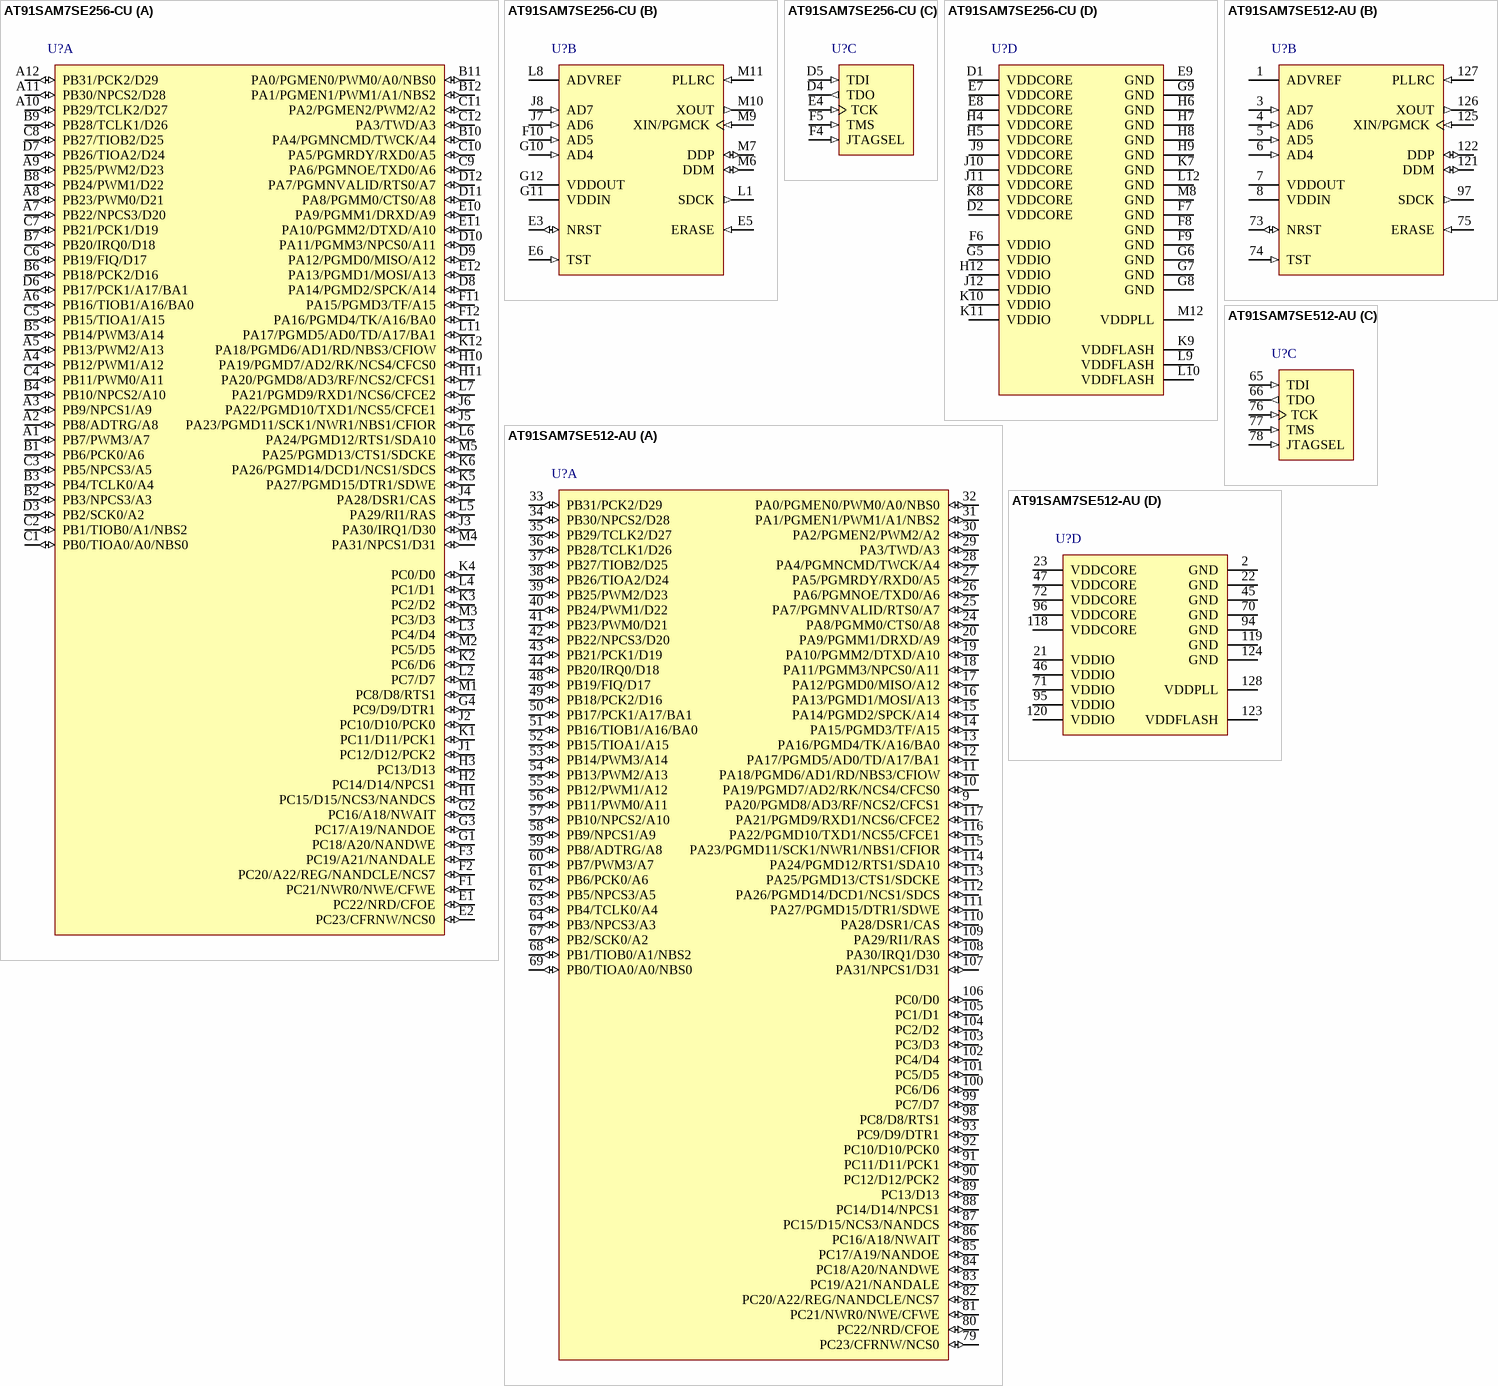
[diagram p16: symbols AT91SAM7SE256-CU to AT91SAM7SE512-AU]

## AT91SAM7SE256-CU
designator U?
AT91 ARM Thumb-based 32-bit Microcontroller, 256KB Flash, 32KB SRAM, EBI, 8-ch. 10-bit ADC, 144-pin LFBGA, Industrial Grade (-40°C to 85°C), Pb-Free; Published: 20-Sep-2010; DatasheetVersion: revE, Dec-2009; PackageVersion: 2008; PackageReference: LFBGA144; Publisher: Altium Limited; PackageDescription: 144-Ball Low Profile Fine Pitch BGA, 10 x 10 x 1.4 mm Body, 0.8 mm Pitch; Supplier 1: Digi-Key; Supplier Part Number 1: AT91SAM7SE256-CU-ND; Supplier 2: Mouser; Supplier Part Number 2: 556-A91SAM7SE256CU; Code_JEDEC: MS-026; ComponentLink1Description: Manufacturer Link; ComponentLink1URL: http://www.atmel.com/products/AT91/default.asp?; ComponentLink2Description: AT91SAM7SE Series Datasheet; ComponentLink2URL: http://www.atmel.com/dyn/resources/prod_documents/doc6222.pdf; ComponentLink3Description: AT91SAM7SE Series Summary; ComponentLink3URL: http://www.atmel.com/dyn/resources/prod_documents/6222s.pdf; ComponentLink4Description: Atmel.com Home; ComponentLink4URL: http://www.atmel.com
footprint LFBGA144 (BGA, 144-Leads, Body 10x10mm, Pitch 0.8mm)
part A pins: A1 PB7/PWM3/A7 (io), A2 PB8/ADTRG/A8 (io), A3 PB9/NPCS1/A9 (io), A4 PB12/PWM1/A12 (io), A5 PB13/PWM2/A13 (io), A6 PB16/TIOB1/A16/BA0 (io), A7 PB22/NPCS3/D20 (io), A8 PB23/PWM0/D21 (io), A9 PB25/PWM2/D23 (io), A10 PB29/TCLK2/D27 (io), A11 PB30/NPCS2/D28 (io), A12 PB31/PCK2/D29 (io), B1 PB6/PCK0/A6 (io), B2 PB3/NPCS3/A3 (io), B3 PB4/TCLK0/A4 (io), B4 PB10/NPCS2/A10 (io), B5 PB14/PWM3/A14 (io), B6 PB18/PCK2/D16 (io), B7 PB20/IRQ0/D18 (io), B8 PB24/PWM1/D22 (io), B9 PB28/TCLK1/D26 (io), B10 PA4/PGMNCMD/TWCK/A4 (io), B11 PA0/PGMEN0/PWM0/A0/NBS0 (io), B12 PA1/PGMEN1/PWM1/A1/NBS2 (io), C1 PB0/TIOA0/A0/NBS0 (io), C2 PB1/TIOB0/A1/NBS2 (io), C3 PB5/NPCS3/A5 (io), C4 PB11/PWM0/A11 (io), C5 PB15/TIOA1/A15 (io), C6 PB19/FIQ/D17 (io), C7 PB21/PCK1/D19 (io), C8 PB27/TIOB2/D25 (io), C9 PA6/PGMNOE/TXD0/A6 (io), C10 PA5/PGMRDY/RXD0/A5 (io), C11 PA2/PGMEN2/PWM2/A2 (io), C12 PA3/TWD/A3 (io), D3 PB2/SCK0/A2 (io), D6 PB17/PCK1/A17/BA1 (io), D7 PB26/TIOA2/D24 (io), D8 PA14/PGMD2/SPCK/A14 (io), D9 PA12/PGMD0/MISO/A12 (io), D10 PA11/PGMM3/NPCS0/A11 (io), D11 PA8/PGMM0/CTS0/A8 (io), D12 PA7/PGMNVALID/RTS0/A7 (io), E1 PC22/NRD/CFOE (io), E2 PC23/CFRNW/NCS0 (io), E10 PA9/PGMM1/DRXD/A9 (io), E11 PA10/PGMM2/DTXD/A10 (io), E12 PA13/PGMD1/MOSI/A13 (io), F1 PC21/NWR0/NWE/CFWE (io), F2 PC20/A22/REG/NANDCLE/NCS7 (io), F3 PC19/A21/NANDALE (io), F11 PA15/PGMD3/TF/A15 (io), F12 PA16/PGMD4/TK/A16/BA0 (io), G1 PC18/A20/NANDWE (io), G2 PC16/A18/NWAIT (io), G3 PC17/A19/NANDOE (io), G4 PC9/D9/DTR1 (io), H1 PC15/D15/NCS3/NANDCS (io), H2 PC14/D14/NPCS1 (io), H3 PC13/D13 (io), H10 PA19/PGMD7/AD2/RK/NCS4/CFCS0 (io), H11 PA20/PGMD8/AD3/RF/NCS2/CFCS1 (io), J1 PC12/D12/PCK2 (io), J2 PC10/D10/PCK0 (io), J3 PA30/IRQ1/D30 (io), J4 PA28/DSR1/CAS (io), J5 PA23/PGMD11/SCK1/NWR1/NBS1/CFIOR (io), J6 PA22/PGMD10/TXD1/NCS5/CFCE1 (io), K1 PC11/D11/PCK1 (io), K2 PC6/D6 (io), K3 PC2/D2 (io), K4 PC0/D0 (io), K5 PA27/PGMD15/DTR1/SDWE (io), K6 PA26/PGMD14/DCD1/NCS1/SDCS (io), K12 PA18/PGMD6/AD1/RD/NBS3/CFIOW (io), L2 PC7/D7 (io), L3 PC4/D4 (io), L4 PC1/D1 (io), L5 PA29/RI1/RAS (io), L6 PA24/PGMD12/RTS1/SDA10 (io), L7 PA21/PGMD9/RXD1/NCS6/CFCE2 (io), L11 PA17/PGMD5/AD0/TD/A17/BA1 (io), M1 PC8/D8/RTS1 (io), M2 PC5/D5 (io), M3 PC3/D3 (io), M4 PA31/NPCS1/D31 (io), M5 PA25/PGMD13/CTS1/SDCKE (io)
part B pins: E3 NRST (io), E5 ERASE (in), E6 TST (in), F10 AD5 (in), G10 AD4 (in), G11 VDDIN (power), G12 VDDOUT (power), J7 AD6 (in), J8 AD7 (in), L1 SDCK (out), L8 ADVREF (power), M6 DDM (io), M7 DDP (io), M9 XIN/PGMCK (in), M10 XOUT (out), M11 PLLRC (in)
part C pins: D4 TDO (out), D5 TDI (in), E4 TCK (in), F4 JTAGSEL (in), F5 TMS (in)
part D pins: D1 VDDCORE (power), D2 VDDCORE (power), E7 VDDCORE (power), E8 VDDCORE (power), E9 GND (power), F6 VDDIO (power), F7 GND (power), F8 GND (power), F9 GND (power), G5 VDDIO (power), G6 GND (power), G7 GND (power), G8 GND (power), G9 GND (power), H4 VDDCORE (power), H5 VDDCORE (power), H6 GND (power), H7 GND (power), H8 GND (power), H9 GND (power), H12 VDDIO (power), J9 VDDCORE (power), J10 VDDCORE (power), J11 VDDCORE (power), J12 VDDIO (power), K7 GND (power), K8 VDDCORE (power), K9 VDDFLASH (power), K10 VDDIO (power), K11 VDDIO (power), L9 VDDFLASH (power), L10 VDDFLASH (power), L12 GND (power), M8 GND (power), M12 VDDPLL (power)